# Altium integrated library Microchip dsPIC33F.IntLib: 595 symbols (part 4 of 29)
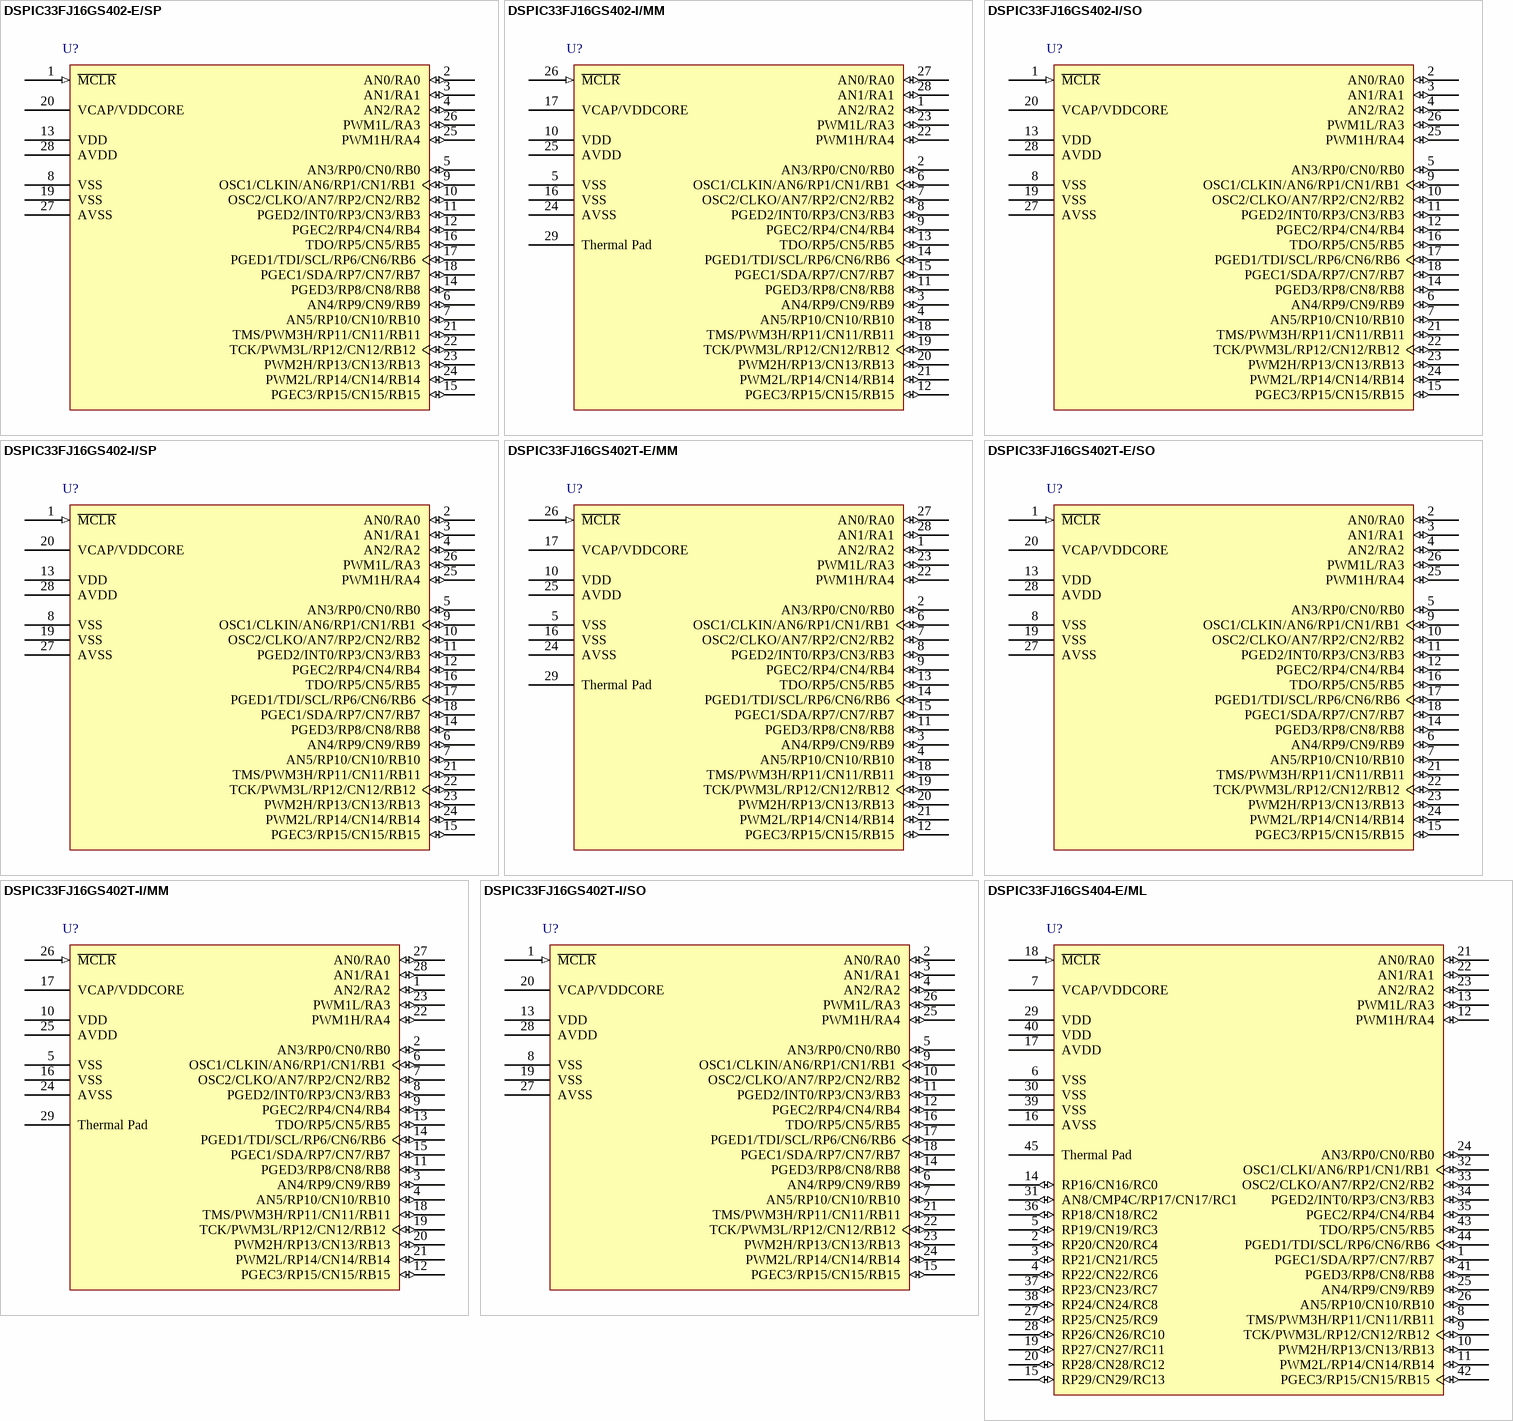
[diagram p121: symbols DSPIC33FJ16GS402-E/SP to DSPIC33FJ16GS404-E/ML]

## DSPIC33FJ16GS402T-I/SO
designator U?
High-Performance 16-bit Digital Signal Controller, 16 KB Flash, 2 KB RAM , 28-Pin SOIC, Industrial Temperature , Tape and Reel; DatasheetVersion: revD, Mar-2009; PackageVersion: revBB, Aug-2009; PackageReference: SOIC-SO28; PackageDescription: 28-Lead Plastic Small Outline (SO) - Wide 7.50mm Body [SOIC]; Code_JEDEC: MS-013; ComponentLink1Description: Manufacturer URL; ComponentLink1URL: http://www.microchip.com/; ComponentLink2Description: Datasheet; ComponentLink2URL: http://ww1.microchip.com/downloads/en/DeviceDoc/70318D.pdf; ComponentLink3Description: Package Specification; ComponentLink3URL: http://www.microchip.com/stellent/groups/techpub_sg/documents/packagingspec/en012702.pdf
footprint SOIC-SO28_N (SOIC, 28-Leads, Body 17.9x7.5mm, Pitch 1.27mm, IPC Medium Density)
footprint SOIC-SO28_L (SOIC, 28-Leads, Body 17.9x7.5mm, Pitch 1.27mm, IPC High Density)
footprint SOIC-SO28_M (SOIC, 28-Leads, Body 17.9x7.5mm, Pitch 1.27mm, IPC Low Density)
pins: 1 ~{MCLR} (in), 2 AN0/RA0 (io), 3 AN1/RA1 (io), 4 AN2/RA2 (io), 5 AN3/RP0/CN0/RB0 (io), 6 AN4/RP9/CN9/RB9 (io), 7 AN5/RP10/CN10/RB10 (io), 8 VSS (power), 9 OSC1/CLKIN/AN6/RP1/CN1/RB1 (io), 10 OSC2/CLKO/AN7/RP2/CN2/RB2 (io), 11 PGED2/INT0/RP3/CN3/RB3 (io), 12 PGEC2/RP4/CN4/RB4 (io), 13 VDD (power), 14 PGED3/RP8/CN8/RB8 (io), 15 PGEC3/RP15/CN15/RB15 (io), 16 TDO/RP5/CN5/RB5 (io), 17 PGED1/TDI/SCL/RP6/CN6/RB6 (io), 18 PGEC1/SDA/RP7/CN7/RB7 (io), 19 VSS (power), 20 VCAP/VDDCORE (power), 21 TMS/PWM3H/RP11/CN11/RB11 (io), 22 TCK/PWM3L/RP12/CN12/RB12 (io), 23 PWM2H/RP13/CN13/RB13 (io), 24 PWM2L/RP14/CN14/RB14 (io), 25 PWM1H/RA4 (io), 26 PWM1L/RA3 (io), 27 AVSS (power), 28 AVDD (power)

## DSPIC33FJ16GS404-E/ML
designator U?
High-Performance 16-bit Digital Signal Controller, 16 KB Flash, 2 KB RAM , 44-Pin QFN, Extended High Temperature; DatasheetVersion: revD, Mar-2009; PackageVersion: revBB, Aug-2009; PackageReference: QFN-ML44; PackageDescription: 44-Lead Plastic Quad Flat, No Lead Package (ML) - 8x8 mm Body [QFN]; Code_JEDEC: MO-220; Code_IPC: QFN65P800X800-44V2; ComponentLink1Description: Manufacturer URL; ComponentLink1URL: http://www.microchip.com/; ComponentLink2Description: Datasheet; ComponentLink2URL: http://ww1.microchip.com/downloads/en/DeviceDoc/70318D.pdf; ComponentLink3Description: Package Specification; ComponentLink3URL: http://www.microchip.com/stellent/groups/techpub_sg/documents/packagingspec/en012702.pdf
footprint QFN-ML44_N (QFN, 44-Leads, Body 8x8mm, Pitch 0.65mm, Thermal Pad 6.8x6.8mm, IPC Medium Density)
footprint QFN-ML44_L (QFN, 44-Leads, Body 8x8mm, Pitch 0.65mm, Thermal Pad 6.8x6.8mm, IPC High Density)
footprint QFN-ML44_M (QFN, 44-Leads, Body 8x8mm, Pitch 0.65mm, Thermal Pad 6.8x6.8mm, IPC Low Density)
pins: 1 PGEC1/SDA/RP7/CN7/RB7 (io), 2 RP20/CN20/RC4 (io), 3 RP21/CN21/RC5 (io), 4 RP22/CN22/RC6 (io), 5 RP19/CN19/RC3 (io), 6 VSS (power), 7 VCAP/VDDCORE (power), 8 TMS/PWM3H/RP11/CN11/RB11 (io), 9 TCK/PWM3L/RP12/CN12/RB12 (io), 10 PWM2H/RP13/CN13/RB13 (io), 11 PWM2L/RP14/CN14/RB14 (io), 12 PWM1H/RA4 (io), 13 PWM1L/RA3 (io), 14 RP16/CN16/RC0 (io), 15 RP29/CN29/RC13 (io), 16 AVSS (power), 17 AVDD (power), 18 ~{MCLR} (in), 19 RP27/CN27/RC11 (io), 20 RP28/CN28/RC12 (io), 21 AN0/RA0 (io), 22 AN1/RA1 (io), 23 AN2/RA2 (io), 24 AN3/RP0/CN0/RB0 (io), 25 AN4/RP9/CN9/RB9 (io), 26 AN5/RP10/CN10/RB10 (io), 27 RP25/CN25/RC9 (io), 28 RP26/CN26/RC10 (io), 29 VDD (power), 30 VSS (power), 31 AN8/CMP4C/RP17/CN17/RC1 (io), 32 OSC1/CLKI/AN6/RP1/CN1/RB1 (io), 33 OSC2/CLKO/AN7/RP2/CN2/RB2 (io), 34 PGED2/INT0/RP3/CN3/RB3 (io), 35 PGEC2/RP4/CN4/RB4 (io), 36 RP18/CN18/RC2 (io), 37 RP23/CN23/RC7 (io), 38 RP24/CN24/RC8 (io), 39 VSS (power), 40 VDD (power), 41 PGED3/RP8/CN8/RB8 (io), 42 PGEC3/RP15/CN15/RB15 (io), 43 TDO/RP5/CN5/RB5 (io), 44 PGED1/TDI/SCL/RP6/CN6/RB6 (io), 45 Thermal Pad

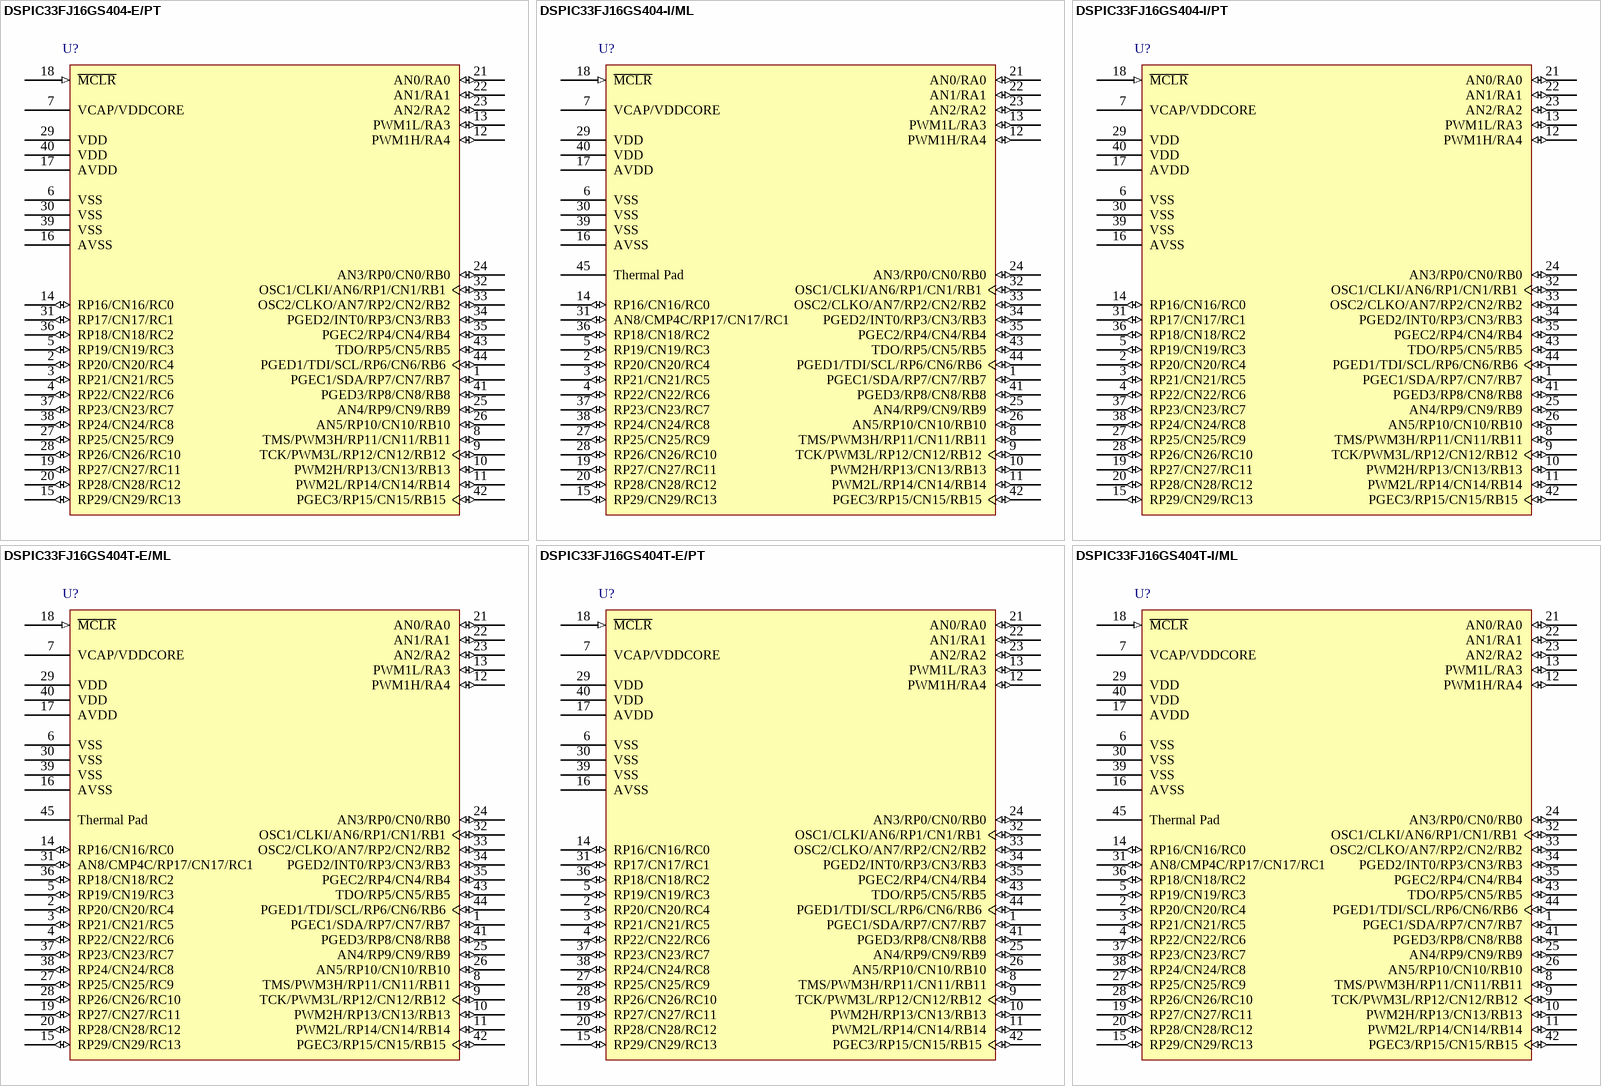
[diagram p9: symbols DSPIC33FJ16GS404-E/PT to DSPIC33FJ16GS404T-I/ML]

## DSPIC33FJ16GS404-E/PT
designator U?
High-Performance 16-bit Digital Signal Controller, 16 KB Flash, 2 KB RAM , 44-Pin TQFP, Extended High Temperature; DatasheetVersion: revD, Mar-2009; PackageVersion: revBB, Aug-2009; PackageReference: TQFP-PT44; PackageDescription: 44-Lead Plastic Thin Quad Flatpack (PT) - 10x10x1mm Body, 2.00mm [TQFP]; Code_JEDEC: MS-026; ComponentLink1Description: Manufacturer URL; ComponentLink1URL: http://www.microchip.com/; ComponentLink2Description: Datasheet; ComponentLink2URL: http://ww1.microchip.com/downloads/en/DeviceDoc/70318D.pdf; ComponentLink3Description: Package Specification; ComponentLink3URL: http://www.microchip.com/stellent/groups/techpub_sg/documents/packagingspec/en012702.pdf
footprint TQFP-PT44_N (Thin QFP, 44-Leads, Body 10x10mm, Pitch 0.8mm, IPC Medium Density)
footprint TQFP-PT44_L (Thin QFP, 44-Leads, Body 10x10mm, Pitch 0.8mm, IPC High Density)
footprint TQFP-PT44_M (Thin QFP, 44-Leads, Body 10x10mm, Pitch 0.8mm, IPC Low Density)
pins: 1 PGEC1/SDA/RP7/CN7/RB7 (io), 2 RP20/CN20/RC4 (io), 3 RP21/CN21/RC5 (io), 4 RP22/CN22/RC6 (io), 5 RP19/CN19/RC3 (io), 6 VSS (power), 7 VCAP/VDDCORE (power), 8 TMS/PWM3H/RP11/CN11/RB11 (io), 9 TCK/PWM3L/RP12/CN12/RB12 (io), 10 PWM2H/RP13/CN13/RB13 (io), 11 PWM2L/RP14/CN14/RB14 (io), 12 PWM1H/RA4 (io), 13 PWM1L/RA3 (io), 14 RP16/CN16/RC0 (io), 15 RP29/CN29/RC13 (io), 16 AVSS (power), 17 AVDD (power), 18 ~{MCLR} (in), 19 RP27/CN27/RC11 (io), 20 RP28/CN28/RC12 (io), 21 AN0/RA0 (io), 22 AN1/RA1 (io), 23 AN2/RA2 (io), 24 AN3/RP0/CN0/RB0 (io), 25 AN4/RP9/CN9/RB9 (io), 26 AN5/RP10/CN10/RB10 (io), 27 RP25/CN25/RC9 (io), 28 RP26/CN26/RC10 (io), 29 VDD (power), 30 VSS (power), 31 RP17/CN17/RC1 (io), 32 OSC1/CLKI/AN6/RP1/CN1/RB1 (io), 33 OSC2/CLKO/AN7/RP2/CN2/RB2 (io), 34 PGED2/INT0/RP3/CN3/RB3 (io), 35 PGEC2/RP4/CN4/RB4 (io), 36 RP18/CN18/RC2 (io), 37 RP23/CN23/RC7 (io), 38 RP24/CN24/RC8 (io), 39 VSS (power), 40 VDD (power), 41 PGED3/RP8/CN8/RB8 (io), 42 PGEC3/RP15/CN15/RB15 (io), 43 TDO/RP5/CN5/RB5 (io), 44 PGED1/TDI/SCL/RP6/CN6/RB6 (io)

## DSPIC33FJ16GS404-I/ML
designator U?
High-Performance 16-bit Digital Signal Controller, 16 KB Flash, 2 KB RAM , 44-Pin QFN, Industrial Temperature; DatasheetVersion: revD, Mar-2009; PackageVersion: revBB, Aug-2009; PackageReference: QFN-ML44; PackageDescription: 44-Lead Plastic Quad Flat, No Lead Package (ML) - 8x8 mm Body [QFN]; Code_JEDEC: MO-220; Code_IPC: QFN65P800X800-44V2; ComponentLink1Description: Manufacturer URL; ComponentLink1URL: http://www.microchip.com/; ComponentLink2Description: Datasheet; ComponentLink2URL: http://ww1.microchip.com/downloads/en/DeviceDoc/70318D.pdf; ComponentLink3Description: Package Specification; ComponentLink3URL: http://www.microchip.com/stellent/groups/techpub_sg/documents/packagingspec/en012702.pdf
footprint QFN-ML44_N (QFN, 44-Leads, Body 8x8mm, Pitch 0.65mm, Thermal Pad 6.8x6.8mm, IPC Medium Density)
footprint QFN-ML44_L (QFN, 44-Leads, Body 8x8mm, Pitch 0.65mm, Thermal Pad 6.8x6.8mm, IPC High Density)
footprint QFN-ML44_M (QFN, 44-Leads, Body 8x8mm, Pitch 0.65mm, Thermal Pad 6.8x6.8mm, IPC Low Density)
pins: 1 PGEC1/SDA/RP7/CN7/RB7 (io), 2 RP20/CN20/RC4 (io), 3 RP21/CN21/RC5 (io), 4 RP22/CN22/RC6 (io), 5 RP19/CN19/RC3 (io), 6 VSS (power), 7 VCAP/VDDCORE (power), 8 TMS/PWM3H/RP11/CN11/RB11 (io), 9 TCK/PWM3L/RP12/CN12/RB12 (io), 10 PWM2H/RP13/CN13/RB13 (io), 11 PWM2L/RP14/CN14/RB14 (io), 12 PWM1H/RA4 (io), 13 PWM1L/RA3 (io), 14 RP16/CN16/RC0 (io), 15 RP29/CN29/RC13 (io), 16 AVSS (power), 17 AVDD (power), 18 ~{MCLR} (in), 19 RP27/CN27/RC11 (io), 20 RP28/CN28/RC12 (io), 21 AN0/RA0 (io), 22 AN1/RA1 (io), 23 AN2/RA2 (io), 24 AN3/RP0/CN0/RB0 (io), 25 AN4/RP9/CN9/RB9 (io), 26 AN5/RP10/CN10/RB10 (io), 27 RP25/CN25/RC9 (io), 28 RP26/CN26/RC10 (io), 29 VDD (power), 30 VSS (power), 31 AN8/CMP4C/RP17/CN17/RC1 (io), 32 OSC1/CLKI/AN6/RP1/CN1/RB1 (io), 33 OSC2/CLKO/AN7/RP2/CN2/RB2 (io), 34 PGED2/INT0/RP3/CN3/RB3 (io), 35 PGEC2/RP4/CN4/RB4 (io), 36 RP18/CN18/RC2 (io), 37 RP23/CN23/RC7 (io), 38 RP24/CN24/RC8 (io), 39 VSS (power), 40 VDD (power), 41 PGED3/RP8/CN8/RB8 (io), 42 PGEC3/RP15/CN15/RB15 (io), 43 TDO/RP5/CN5/RB5 (io), 44 PGED1/TDI/SCL/RP6/CN6/RB6 (io), 45 Thermal Pad

## DSPIC33FJ16GS404-I/PT
designator U?
High-Performance 16-bit Digital Signal Controller, 16 KB Flash, 2 KB RAM , 44-Pin TQFP, Industrial Temperature; DatasheetVersion: revD, Mar-2009; PackageVersion: revBB, Aug-2009; PackageReference: TQFP-PT44; PackageDescription: 44-Lead Plastic Thin Quad Flatpack (PT) - 10x10x1mm Body, 2.00mm [TQFP]; Code_JEDEC: MS-026; ComponentLink1Description: Manufacturer URL; ComponentLink1URL: http://www.microchip.com/; ComponentLink2Description: Datasheet; ComponentLink2URL: http://ww1.microchip.com/downloads/en/DeviceDoc/70318D.pdf; ComponentLink3Description: Package Specification; ComponentLink3URL: http://www.microchip.com/stellent/groups/techpub_sg/documents/packagingspec/en012702.pdf
footprint TQFP-PT44_N (Thin QFP, 44-Leads, Body 10x10mm, Pitch 0.8mm, IPC Medium Density)
footprint TQFP-PT44_L (Thin QFP, 44-Leads, Body 10x10mm, Pitch 0.8mm, IPC High Density)
footprint TQFP-PT44_M (Thin QFP, 44-Leads, Body 10x10mm, Pitch 0.8mm, IPC Low Density)
pins: 1 PGEC1/SDA/RP7/CN7/RB7 (io), 2 RP20/CN20/RC4 (io), 3 RP21/CN21/RC5 (io), 4 RP22/CN22/RC6 (io), 5 RP19/CN19/RC3 (io), 6 VSS (power), 7 VCAP/VDDCORE (power), 8 TMS/PWM3H/RP11/CN11/RB11 (io), 9 TCK/PWM3L/RP12/CN12/RB12 (io), 10 PWM2H/RP13/CN13/RB13 (io), 11 PWM2L/RP14/CN14/RB14 (io), 12 PWM1H/RA4 (io), 13 PWM1L/RA3 (io), 14 RP16/CN16/RC0 (io), 15 RP29/CN29/RC13 (io), 16 AVSS (power), 17 AVDD (power), 18 ~{MCLR} (in), 19 RP27/CN27/RC11 (io), 20 RP28/CN28/RC12 (io), 21 AN0/RA0 (io), 22 AN1/RA1 (io), 23 AN2/RA2 (io), 24 AN3/RP0/CN0/RB0 (io), 25 AN4/RP9/CN9/RB9 (io), 26 AN5/RP10/CN10/RB10 (io), 27 RP25/CN25/RC9 (io), 28 RP26/CN26/RC10 (io), 29 VDD (power), 30 VSS (power), 31 RP17/CN17/RC1 (io), 32 OSC1/CLKI/AN6/RP1/CN1/RB1 (io), 33 OSC2/CLKO/AN7/RP2/CN2/RB2 (io), 34 PGED2/INT0/RP3/CN3/RB3 (io), 35 PGEC2/RP4/CN4/RB4 (io), 36 RP18/CN18/RC2 (io), 37 RP23/CN23/RC7 (io), 38 RP24/CN24/RC8 (io), 39 VSS (power), 40 VDD (power), 41 PGED3/RP8/CN8/RB8 (io), 42 PGEC3/RP15/CN15/RB15 (io), 43 TDO/RP5/CN5/RB5 (io), 44 PGED1/TDI/SCL/RP6/CN6/RB6 (io)

## DSPIC33FJ16GS404T-E/ML
designator U?
High-Performance 16-bit Digital Signal Controller, 16 KB Flash, 2 KB RAM , 44-Pin QFN, Extended High Temperature , Tape and Reel; DatasheetVersion: revD, Mar-2009; PackageVersion: revBB, Aug-2009; PackageReference: QFN-ML44; PackageDescription: 44-Lead Plastic Quad Flat, No Lead Package (ML) - 8x8 mm Body [QFN]; Code_JEDEC: MO-220; Code_IPC: QFN65P800X800-44V2; ComponentLink1Description: Manufacturer URL; ComponentLink1URL: http://www.microchip.com/; ComponentLink2Description: Datasheet; ComponentLink2URL: http://ww1.microchip.com/downloads/en/DeviceDoc/70318D.pdf; ComponentLink3Description: Package Specification; ComponentLink3URL: http://www.microchip.com/stellent/groups/techpub_sg/documents/packagingspec/en012702.pdf
footprint QFN-ML44_N (QFN, 44-Leads, Body 8x8mm, Pitch 0.65mm, Thermal Pad 6.8x6.8mm, IPC Medium Density)
footprint QFN-ML44_L (QFN, 44-Leads, Body 8x8mm, Pitch 0.65mm, Thermal Pad 6.8x6.8mm, IPC High Density)
footprint QFN-ML44_M (QFN, 44-Leads, Body 8x8mm, Pitch 0.65mm, Thermal Pad 6.8x6.8mm, IPC Low Density)
pins: 1 PGEC1/SDA/RP7/CN7/RB7 (io), 2 RP20/CN20/RC4 (io), 3 RP21/CN21/RC5 (io), 4 RP22/CN22/RC6 (io), 5 RP19/CN19/RC3 (io), 6 VSS (power), 7 VCAP/VDDCORE (power), 8 TMS/PWM3H/RP11/CN11/RB11 (io), 9 TCK/PWM3L/RP12/CN12/RB12 (io), 10 PWM2H/RP13/CN13/RB13 (io), 11 PWM2L/RP14/CN14/RB14 (io), 12 PWM1H/RA4 (io), 13 PWM1L/RA3 (io), 14 RP16/CN16/RC0 (io), 15 RP29/CN29/RC13 (io), 16 AVSS (power), 17 AVDD (power), 18 ~{MCLR} (in), 19 RP27/CN27/RC11 (io), 20 RP28/CN28/RC12 (io), 21 AN0/RA0 (io), 22 AN1/RA1 (io), 23 AN2/RA2 (io), 24 AN3/RP0/CN0/RB0 (io), 25 AN4/RP9/CN9/RB9 (io), 26 AN5/RP10/CN10/RB10 (io), 27 RP25/CN25/RC9 (io), 28 RP26/CN26/RC10 (io), 29 VDD (power), 30 VSS (power), 31 AN8/CMP4C/RP17/CN17/RC1 (io), 32 OSC1/CLKI/AN6/RP1/CN1/RB1 (io), 33 OSC2/CLKO/AN7/RP2/CN2/RB2 (io), 34 PGED2/INT0/RP3/CN3/RB3 (io), 35 PGEC2/RP4/CN4/RB4 (io), 36 RP18/CN18/RC2 (io), 37 RP23/CN23/RC7 (io), 38 RP24/CN24/RC8 (io), 39 VSS (power), 40 VDD (power), 41 PGED3/RP8/CN8/RB8 (io), 42 PGEC3/RP15/CN15/RB15 (io), 43 TDO/RP5/CN5/RB5 (io), 44 PGED1/TDI/SCL/RP6/CN6/RB6 (io), 45 Thermal Pad

## DSPIC33FJ16GS404T-E/PT
designator U?
High-Performance 16-bit Digital Signal Controller, 16 KB Flash, 2 KB RAM , 44-Pin TQFP, Extended High Temperature , Tape and Reel; DatasheetVersion: revD, Mar-2009; PackageVersion: revBB, Aug-2009; PackageReference: TQFP-PT44; PackageDescription: 44-Lead Plastic Thin Quad Flatpack (PT) - 10x10x1mm Body, 2.00mm [TQFP]; Code_JEDEC: MS-026; ComponentLink1Description: Manufacturer URL; ComponentLink1URL: http://www.microchip.com/; ComponentLink2Description: Datasheet; ComponentLink2URL: http://ww1.microchip.com/downloads/en/DeviceDoc/70318D.pdf; ComponentLink3Description: Package Specification; ComponentLink3URL: http://www.microchip.com/stellent/groups/techpub_sg/documents/packagingspec/en012702.pdf
footprint TQFP-PT44_N (Thin QFP, 44-Leads, Body 10x10mm, Pitch 0.8mm, IPC Medium Density)
footprint TQFP-PT44_L (Thin QFP, 44-Leads, Body 10x10mm, Pitch 0.8mm, IPC High Density)
footprint TQFP-PT44_M (Thin QFP, 44-Leads, Body 10x10mm, Pitch 0.8mm, IPC Low Density)
pins: 1 PGEC1/SDA/RP7/CN7/RB7 (io), 2 RP20/CN20/RC4 (io), 3 RP21/CN21/RC5 (io), 4 RP22/CN22/RC6 (io), 5 RP19/CN19/RC3 (io), 6 VSS (power), 7 VCAP/VDDCORE (power), 8 TMS/PWM3H/RP11/CN11/RB11 (io), 9 TCK/PWM3L/RP12/CN12/RB12 (io), 10 PWM2H/RP13/CN13/RB13 (io), 11 PWM2L/RP14/CN14/RB14 (io), 12 PWM1H/RA4 (io), 13 PWM1L/RA3 (io), 14 RP16/CN16/RC0 (io), 15 RP29/CN29/RC13 (io), 16 AVSS (power), 17 AVDD (power), 18 ~{MCLR} (in), 19 RP27/CN27/RC11 (io), 20 RP28/CN28/RC12 (io), 21 AN0/RA0 (io), 22 AN1/RA1 (io), 23 AN2/RA2 (io), 24 AN3/RP0/CN0/RB0 (io), 25 AN4/RP9/CN9/RB9 (io), 26 AN5/RP10/CN10/RB10 (io), 27 RP25/CN25/RC9 (io), 28 RP26/CN26/RC10 (io), 29 VDD (power), 30 VSS (power), 31 RP17/CN17/RC1 (io), 32 OSC1/CLKI/AN6/RP1/CN1/RB1 (io), 33 OSC2/CLKO/AN7/RP2/CN2/RB2 (io), 34 PGED2/INT0/RP3/CN3/RB3 (io), 35 PGEC2/RP4/CN4/RB4 (io), 36 RP18/CN18/RC2 (io), 37 RP23/CN23/RC7 (io), 38 RP24/CN24/RC8 (io), 39 VSS (power), 40 VDD (power), 41 PGED3/RP8/CN8/RB8 (io), 42 PGEC3/RP15/CN15/RB15 (io), 43 TDO/RP5/CN5/RB5 (io), 44 PGED1/TDI/SCL/RP6/CN6/RB6 (io)

## DSPIC33FJ16GS404T-I/ML
designator U?
High-Performance 16-bit Digital Signal Controller, 16 KB Flash, 2 KB RAM , 44-Pin QFN, Industrial Temperature , Tape and Reel; DatasheetVersion: revD, Mar-2009; PackageVersion: revBB, Aug-2009; PackageReference: QFN-ML44; PackageDescription: 44-Lead Plastic Quad Flat, No Lead Package (ML) - 8x8 mm Body [QFN]; Code_JEDEC: MO-220; Code_IPC: QFN65P800X800-44V2; ComponentLink1Description: Manufacturer URL; ComponentLink1URL: http://www.microchip.com/; ComponentLink2Description: Datasheet; ComponentLink2URL: http://ww1.microchip.com/downloads/en/DeviceDoc/70318D.pdf; ComponentLink3Description: Package Specification; ComponentLink3URL: http://www.microchip.com/stellent/groups/techpub_sg/documents/packagingspec/en012702.pdf
footprint QFN-ML44_N (QFN, 44-Leads, Body 8x8mm, Pitch 0.65mm, Thermal Pad 6.8x6.8mm, IPC Medium Density)
footprint QFN-ML44_L (QFN, 44-Leads, Body 8x8mm, Pitch 0.65mm, Thermal Pad 6.8x6.8mm, IPC High Density)
footprint QFN-ML44_M (QFN, 44-Leads, Body 8x8mm, Pitch 0.65mm, Thermal Pad 6.8x6.8mm, IPC Low Density)
pins: 1 PGEC1/SDA/RP7/CN7/RB7 (io), 2 RP20/CN20/RC4 (io), 3 RP21/CN21/RC5 (io), 4 RP22/CN22/RC6 (io), 5 RP19/CN19/RC3 (io), 6 VSS (power), 7 VCAP/VDDCORE (power), 8 TMS/PWM3H/RP11/CN11/RB11 (io), 9 TCK/PWM3L/RP12/CN12/RB12 (io), 10 PWM2H/RP13/CN13/RB13 (io), 11 PWM2L/RP14/CN14/RB14 (io), 12 PWM1H/RA4 (io), 13 PWM1L/RA3 (io), 14 RP16/CN16/RC0 (io), 15 RP29/CN29/RC13 (io), 16 AVSS (power), 17 AVDD (power), 18 ~{MCLR} (in), 19 RP27/CN27/RC11 (io), 20 RP28/CN28/RC12 (io), 21 AN0/RA0 (io), 22 AN1/RA1 (io), 23 AN2/RA2 (io), 24 AN3/RP0/CN0/RB0 (io), 25 AN4/RP9/CN9/RB9 (io), 26 AN5/RP10/CN10/RB10 (io), 27 RP25/CN25/RC9 (io), 28 RP26/CN26/RC10 (io), 29 VDD (power), 30 VSS (power), 31 AN8/CMP4C/RP17/CN17/RC1 (io), 32 OSC1/CLKI/AN6/RP1/CN1/RB1 (io), 33 OSC2/CLKO/AN7/RP2/CN2/RB2 (io), 34 PGED2/INT0/RP3/CN3/RB3 (io), 35 PGEC2/RP4/CN4/RB4 (io), 36 RP18/CN18/RC2 (io), 37 RP23/CN23/RC7 (io), 38 RP24/CN24/RC8 (io), 39 VSS (power), 40 VDD (power), 41 PGED3/RP8/CN8/RB8 (io), 42 PGEC3/RP15/CN15/RB15 (io), 43 TDO/RP5/CN5/RB5 (io), 44 PGED1/TDI/SCL/RP6/CN6/RB6 (io), 45 Thermal Pad

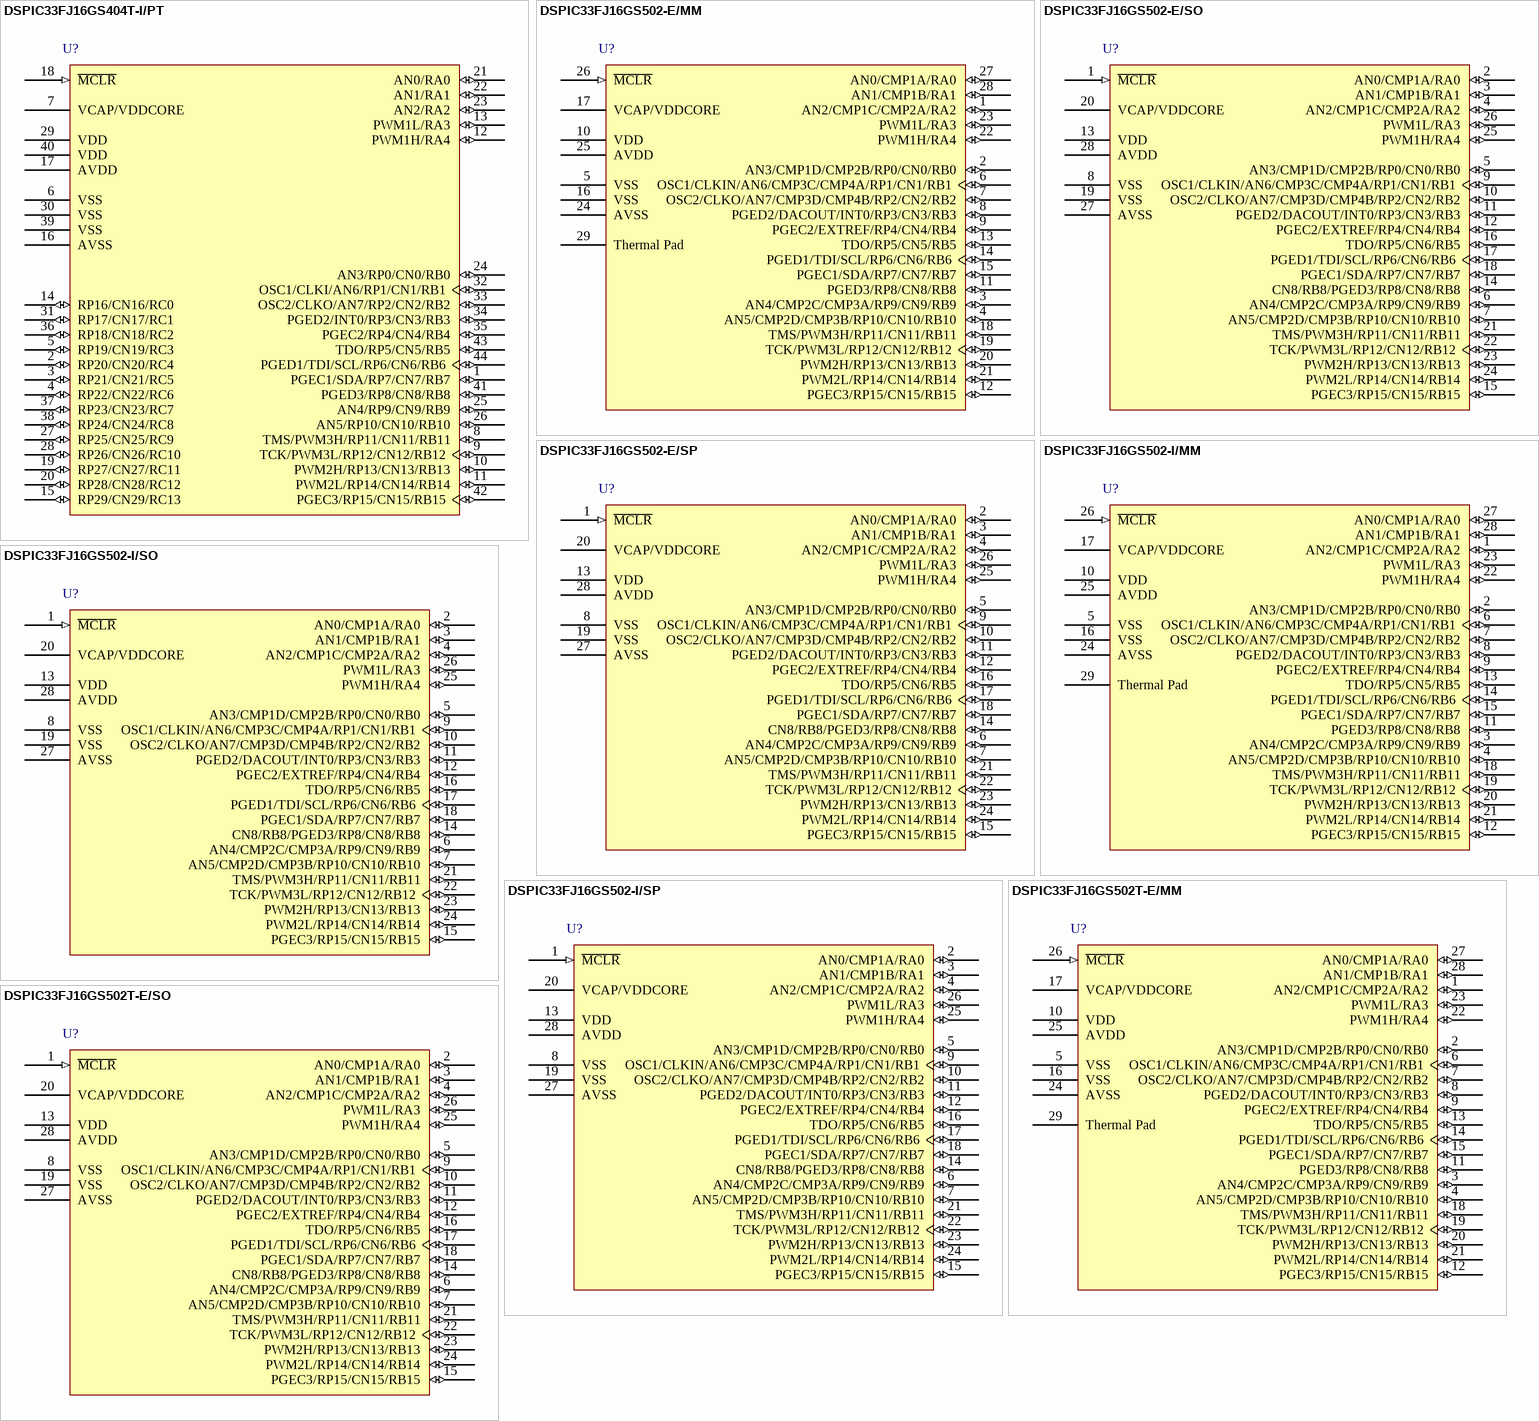
[diagram p10: symbols DSPIC33FJ16GS404T-I/PT to DSPIC33FJ16GS502T-E/SO]

## DSPIC33FJ16GS404T-I/PT
designator U?
High-Performance 16-bit Digital Signal Controller, 16 KB Flash, 2 KB RAM , 44-Pin TQFP, Industrial Temperature , Tape and Reel; DatasheetVersion: revD, Mar-2009; PackageVersion: revBB, Aug-2009; PackageReference: TQFP-PT44; PackageDescription: 44-Lead Plastic Thin Quad Flatpack (PT) - 10x10x1mm Body, 2.00mm [TQFP]; Code_JEDEC: MS-026; ComponentLink1Description: Manufacturer URL; ComponentLink1URL: http://www.microchip.com/; ComponentLink2Description: Datasheet; ComponentLink2URL: http://ww1.microchip.com/downloads/en/DeviceDoc/70318D.pdf; ComponentLink3Description: Package Specification; ComponentLink3URL: http://www.microchip.com/stellent/groups/techpub_sg/documents/packagingspec/en012702.pdf
footprint TQFP-PT44_N (Thin QFP, 44-Leads, Body 10x10mm, Pitch 0.8mm, IPC Medium Density)
footprint TQFP-PT44_L (Thin QFP, 44-Leads, Body 10x10mm, Pitch 0.8mm, IPC High Density)
footprint TQFP-PT44_M (Thin QFP, 44-Leads, Body 10x10mm, Pitch 0.8mm, IPC Low Density)
pins: 1 PGEC1/SDA/RP7/CN7/RB7 (io), 2 RP20/CN20/RC4 (io), 3 RP21/CN21/RC5 (io), 4 RP22/CN22/RC6 (io), 5 RP19/CN19/RC3 (io), 6 VSS (power), 7 VCAP/VDDCORE (power), 8 TMS/PWM3H/RP11/CN11/RB11 (io), 9 TCK/PWM3L/RP12/CN12/RB12 (io), 10 PWM2H/RP13/CN13/RB13 (io), 11 PWM2L/RP14/CN14/RB14 (io), 12 PWM1H/RA4 (io), 13 PWM1L/RA3 (io), 14 RP16/CN16/RC0 (io), 15 RP29/CN29/RC13 (io), 16 AVSS (power), 17 AVDD (power), 18 ~{MCLR} (in), 19 RP27/CN27/RC11 (io), 20 RP28/CN28/RC12 (io), 21 AN0/RA0 (io), 22 AN1/RA1 (io), 23 AN2/RA2 (io), 24 AN3/RP0/CN0/RB0 (io), 25 AN4/RP9/CN9/RB9 (io), 26 AN5/RP10/CN10/RB10 (io), 27 RP25/CN25/RC9 (io), 28 RP26/CN26/RC10 (io), 29 VDD (power), 30 VSS (power), 31 RP17/CN17/RC1 (io), 32 OSC1/CLKI/AN6/RP1/CN1/RB1 (io), 33 OSC2/CLKO/AN7/RP2/CN2/RB2 (io), 34 PGED2/INT0/RP3/CN3/RB3 (io), 35 PGEC2/RP4/CN4/RB4 (io), 36 RP18/CN18/RC2 (io), 37 RP23/CN23/RC7 (io), 38 RP24/CN24/RC8 (io), 39 VSS (power), 40 VDD (power), 41 PGED3/RP8/CN8/RB8 (io), 42 PGEC3/RP15/CN15/RB15 (io), 43 TDO/RP5/CN5/RB5 (io), 44 PGED1/TDI/SCL/RP6/CN6/RB6 (io)

## DSPIC33FJ16GS502-E/MM
designator U?
High-Performance 16-bit Digital Signal Controller, 16 KB Flash, 2 KB RAM , 28-Pin QFN, Extended High Temperature; DatasheetVersion: revD, Mar-2009; PackageVersion: revBB, Aug-2009; PackageReference: QFNS-MM28; PackageDescription: 28-Lead Plastic Quad Flat, No Lead Package (MM) - 6x6x0.9 mm Body [QFN-S] with 0.40 mm Contact Length; ComponentLink1Description: Manufacturer URL; ComponentLink1URL: http://www.microchip.com/; ComponentLink2Description: Datasheet; ComponentLink2URL: http://ww1.microchip.com/downloads/en/DeviceDoc/70318D.pdf; ComponentLink3Description: Package Specification; ComponentLink3URL: http://www.microchip.com/stellent/groups/techpub_sg/documents/packagingspec/en012702.pdf
footprint QFNS-MM28_N (QFN, 28-Leads, Body 6x6mm, Pitch 0.65mm, Thermal Pad 4.7x4.7mm, IPC Medium Density)
footprint QFNS-MM28_L (QFN, 28-Leads, Body 6x6mm, Pitch 0.65mm, Thermal Pad 4.7x4.7mm, IPC High Density)
footprint QFNS-MM28_M (QFN, 28-Leads, Body 6x6mm, Pitch 0.65mm, Thermal Pad 4.7x4.7mm, IPC Low Density)
pins: 1 AN2/CMP1C/CMP2A/RA2 (io), 2 AN3/CMP1D/CMP2B/RP0/CN0/RB0 (io), 3 AN4/CMP2C/CMP3A/RP9/CN9/RB9 (io), 4 AN5/CMP2D/CMP3B/RP10/CN10/RB10 (io), 5 VSS (power), 6 OSC1/CLKIN/AN6/CMP3C/CMP4A/RP1/CN1/RB1 (io), 7 OSC2/CLKO/AN7/CMP3D/CMP4B/RP2/CN2/RB2 (io), 8 PGED2/DACOUT/INT0/RP3/CN3/RB3 (io), 9 PGEC2/EXTREF/RP4/CN4/RB4 (io), 10 VDD (power), 11 PGED3/RP8/CN8/RB8 (io), 12 PGEC3/RP15/CN15/RB15 (io), 13 TDO/RP5/CN5/RB5 (io), 14 PGED1/TDI/SCL/RP6/CN6/RB6 (io), 15 PGEC1/SDA/RP7/CN7/RB7 (io), 16 VSS (power), 17 VCAP/VDDCORE (power), 18 TMS/PWM3H/RP11/CN11/RB11 (io), 19 TCK/PWM3L/RP12/CN12/RB12 (io), 20 PWM2H/RP13/CN13/RB13 (io), 21 PWM2L/RP14/CN14/RB14 (io), 22 PWM1H/RA4 (io), 23 PWM1L/RA3 (io), 24 AVSS (power), 25 AVDD (power), 26 ~{MCLR} (in), 27 AN0/CMP1A/RA0 (io), 28 AN1/CMP1B/RA1 (io), 29 Thermal Pad

## DSPIC33FJ16GS502-E/SO
designator U?
High-Performance 16-bit Digital Signal Controller, 16 KB Flash, 2 KB RAM , 28-Pin SOIC, Extended High Temperature; DatasheetVersion: revD, Mar-2009; PackageVersion: revBB, Aug-2009; PackageReference: SOIC-SO28; PackageDescription: 28-Lead Plastic Small Outline (SO) - Wide 7.50mm Body [SOIC]; Code_JEDEC: MS-013; ComponentLink1Description: Manufacturer URL; ComponentLink1URL: http://www.microchip.com/; ComponentLink2Description: Datasheet; ComponentLink2URL: http://ww1.microchip.com/downloads/en/DeviceDoc/70318D.pdf; ComponentLink3Description: Package Specification; ComponentLink3URL: http://www.microchip.com/stellent/groups/techpub_sg/documents/packagingspec/en012702.pdf
footprint SOIC-SO28_N (SOIC, 28-Leads, Body 17.9x7.5mm, Pitch 1.27mm, IPC Medium Density)
footprint SOIC-SO28_L (SOIC, 28-Leads, Body 17.9x7.5mm, Pitch 1.27mm, IPC High Density)
footprint SOIC-SO28_M (SOIC, 28-Leads, Body 17.9x7.5mm, Pitch 1.27mm, IPC Low Density)
pins: 1 ~{MCLR} (in), 2 AN0/CMP1A/RA0 (io), 3 AN1/CMP1B/RA1 (io), 4 AN2/CMP1C/CMP2A/RA2 (io), 5 AN3/CMP1D/CMP2B/RP0/CN0/RB0 (io), 6 AN4/CMP2C/CMP3A/RP9/CN9/RB9 (io), 7 AN5/CMP2D/CMP3B/RP10/CN10/RB10 (io), 8 VSS (power), 9 OSC1/CLKIN/AN6/CMP3C/CMP4A/RP1/CN1/RB1 (io), 10 OSC2/CLKO/AN7/CMP3D/CMP4B/RP2/CN2/RB2 (io), 11 PGED2/DACOUT/INT0/RP3/CN3/RB3 (io), 12 PGEC2/EXTREF/RP4/CN4/RB4 (io), 13 VDD (power), 14 CN8/RB8/PGED3/RP8/CN8/RB8 (io), 15 PGEC3/RP15/CN15/RB15 (io), 16 TDO/RP5/CN6/RB5 (io), 17 PGED1/TDI/SCL/RP6/CN6/RB6 (io), 18 PGEC1/SDA/RP7/CN7/RB7 (io), 19 VSS (power), 20 VCAP/VDDCORE (power), 21 TMS/PWM3H/RP11/CN11/RB11 (io), 22 TCK/PWM3L/RP12/CN12/RB12 (io), 23 PWM2H/RP13/CN13/RB13 (io), 24 PWM2L/RP14/CN14/RB14 (io), 25 PWM1H/RA4 (io), 26 PWM1L/RA3 (io), 27 AVSS (power), 28 AVDD (power)

## DSPIC33FJ16GS502-E/SP
designator U?
High-Performance 16-bit Digital Signal Controller, 16 KB Flash, 2 KB RAM , 28-Pin SPDIP, Extended High Temperature; DatasheetVersion: revD, Mar-2009; PackageVersion: revBB, Aug-2009; PackageReference: SPDIP300-SP28; PackageDescription: 28-Lead Skinny Plastic Dual In-Line (SP) - 300 mil Body [SPDIP]; ComponentLink1Description: Manufacturer URL; ComponentLink1URL: http://www.microchip.com/; ComponentLink2Description: Datasheet; ComponentLink2URL: http://ww1.microchip.com/downloads/en/DeviceDoc/70318D.pdf; ComponentLink3Description: Package Specification; ComponentLink3URL: http://www.microchip.com/stellent/groups/techpub_sg/documents/packagingspec/en012702.pdf
footprint SPDIP300-SP28 (DIP, 28-Leads, Row Spacing 7.62mm, Pitch 2.54mm, Body 34.9x6.8mm)
pins: 1 ~{MCLR} (in), 2 AN0/CMP1A/RA0 (io), 3 AN1/CMP1B/RA1 (io), 4 AN2/CMP1C/CMP2A/RA2 (io), 5 AN3/CMP1D/CMP2B/RP0/CN0/RB0 (io), 6 AN4/CMP2C/CMP3A/RP9/CN9/RB9 (io), 7 AN5/CMP2D/CMP3B/RP10/CN10/RB10 (io), 8 VSS (power), 9 OSC1/CLKIN/AN6/CMP3C/CMP4A/RP1/CN1/RB1 (io), 10 OSC2/CLKO/AN7/CMP3D/CMP4B/RP2/CN2/RB2 (io), 11 PGED2/DACOUT/INT0/RP3/CN3/RB3 (io), 12 PGEC2/EXTREF/RP4/CN4/RB4 (io), 13 VDD (power), 14 CN8/RB8/PGED3/RP8/CN8/RB8 (io), 15 PGEC3/RP15/CN15/RB15 (io), 16 TDO/RP5/CN6/RB5 (io), 17 PGED1/TDI/SCL/RP6/CN6/RB6 (io), 18 PGEC1/SDA/RP7/CN7/RB7 (io), 19 VSS (power), 20 VCAP/VDDCORE (power), 21 TMS/PWM3H/RP11/CN11/RB11 (io), 22 TCK/PWM3L/RP12/CN12/RB12 (io), 23 PWM2H/RP13/CN13/RB13 (io), 24 PWM2L/RP14/CN14/RB14 (io), 25 PWM1H/RA4 (io), 26 PWM1L/RA3 (io), 27 AVSS (power), 28 AVDD (power)

## DSPIC33FJ16GS502-I/MM
designator U?
High-Performance 16-bit Digital Signal Controller, 16 KB Flash, 2 KB RAM , 28-Pin QFN, Industrial Temperature; DatasheetVersion: revD, Mar-2009; PackageVersion: revBB, Aug-2009; PackageReference: QFNS-MM28; PackageDescription: 28-Lead Plastic Quad Flat, No Lead Package (MM) - 6x6x0.9 mm Body [QFN-S] with 0.40 mm Contact Length; ComponentLink1Description: Manufacturer URL; ComponentLink1URL: http://www.microchip.com/; ComponentLink2Description: Datasheet; ComponentLink2URL: http://ww1.microchip.com/downloads/en/DeviceDoc/70318D.pdf; ComponentLink3Description: Package Specification; ComponentLink3URL: http://www.microchip.com/stellent/groups/techpub_sg/documents/packagingspec/en012702.pdf
footprint QFNS-MM28_N (QFN, 28-Leads, Body 6x6mm, Pitch 0.65mm, Thermal Pad 4.7x4.7mm, IPC Medium Density)
footprint QFNS-MM28_L (QFN, 28-Leads, Body 6x6mm, Pitch 0.65mm, Thermal Pad 4.7x4.7mm, IPC High Density)
footprint QFNS-MM28_M (QFN, 28-Leads, Body 6x6mm, Pitch 0.65mm, Thermal Pad 4.7x4.7mm, IPC Low Density)
pins: 1 AN2/CMP1C/CMP2A/RA2 (io), 2 AN3/CMP1D/CMP2B/RP0/CN0/RB0 (io), 3 AN4/CMP2C/CMP3A/RP9/CN9/RB9 (io), 4 AN5/CMP2D/CMP3B/RP10/CN10/RB10 (io), 5 VSS (power), 6 OSC1/CLKIN/AN6/CMP3C/CMP4A/RP1/CN1/RB1 (io), 7 OSC2/CLKO/AN7/CMP3D/CMP4B/RP2/CN2/RB2 (io), 8 PGED2/DACOUT/INT0/RP3/CN3/RB3 (io), 9 PGEC2/EXTREF/RP4/CN4/RB4 (io), 10 VDD (power), 11 PGED3/RP8/CN8/RB8 (io), 12 PGEC3/RP15/CN15/RB15 (io), 13 TDO/RP5/CN5/RB5 (io), 14 PGED1/TDI/SCL/RP6/CN6/RB6 (io), 15 PGEC1/SDA/RP7/CN7/RB7 (io), 16 VSS (power), 17 VCAP/VDDCORE (power), 18 TMS/PWM3H/RP11/CN11/RB11 (io), 19 TCK/PWM3L/RP12/CN12/RB12 (io), 20 PWM2H/RP13/CN13/RB13 (io), 21 PWM2L/RP14/CN14/RB14 (io), 22 PWM1H/RA4 (io), 23 PWM1L/RA3 (io), 24 AVSS (power), 25 AVDD (power), 26 ~{MCLR} (in), 27 AN0/CMP1A/RA0 (io), 28 AN1/CMP1B/RA1 (io), 29 Thermal Pad

## DSPIC33FJ16GS502-I/SO
designator U?
High-Performance 16-bit Digital Signal Controller, 16 KB Flash, 2 KB RAM , 28-Pin SOIC, Industrial Temperature; DatasheetVersion: revD, Mar-2009; PackageVersion: revBB, Aug-2009; PackageReference: SOIC-SO28; PackageDescription: 28-Lead Plastic Small Outline (SO) - Wide 7.50mm Body [SOIC]; Code_JEDEC: MS-013; ComponentLink1Description: Manufacturer URL; ComponentLink1URL: http://www.microchip.com/; ComponentLink2Description: Datasheet; ComponentLink2URL: http://ww1.microchip.com/downloads/en/DeviceDoc/70318D.pdf; ComponentLink3Description: Package Specification; ComponentLink3URL: http://www.microchip.com/stellent/groups/techpub_sg/documents/packagingspec/en012702.pdf
footprint SOIC-SO28_N (SOIC, 28-Leads, Body 17.9x7.5mm, Pitch 1.27mm, IPC Medium Density)
footprint SOIC-SO28_L (SOIC, 28-Leads, Body 17.9x7.5mm, Pitch 1.27mm, IPC High Density)
footprint SOIC-SO28_M (SOIC, 28-Leads, Body 17.9x7.5mm, Pitch 1.27mm, IPC Low Density)
pins: 1 ~{MCLR} (in), 2 AN0/CMP1A/RA0 (io), 3 AN1/CMP1B/RA1 (io), 4 AN2/CMP1C/CMP2A/RA2 (io), 5 AN3/CMP1D/CMP2B/RP0/CN0/RB0 (io), 6 AN4/CMP2C/CMP3A/RP9/CN9/RB9 (io), 7 AN5/CMP2D/CMP3B/RP10/CN10/RB10 (io), 8 VSS (power), 9 OSC1/CLKIN/AN6/CMP3C/CMP4A/RP1/CN1/RB1 (io), 10 OSC2/CLKO/AN7/CMP3D/CMP4B/RP2/CN2/RB2 (io), 11 PGED2/DACOUT/INT0/RP3/CN3/RB3 (io), 12 PGEC2/EXTREF/RP4/CN4/RB4 (io), 13 VDD (power), 14 CN8/RB8/PGED3/RP8/CN8/RB8 (io), 15 PGEC3/RP15/CN15/RB15 (io), 16 TDO/RP5/CN6/RB5 (io), 17 PGED1/TDI/SCL/RP6/CN6/RB6 (io), 18 PGEC1/SDA/RP7/CN7/RB7 (io), 19 VSS (power), 20 VCAP/VDDCORE (power), 21 TMS/PWM3H/RP11/CN11/RB11 (io), 22 TCK/PWM3L/RP12/CN12/RB12 (io), 23 PWM2H/RP13/CN13/RB13 (io), 24 PWM2L/RP14/CN14/RB14 (io), 25 PWM1H/RA4 (io), 26 PWM1L/RA3 (io), 27 AVSS (power), 28 AVDD (power)

## DSPIC33FJ16GS502-I/SP
designator U?
High-Performance 16-bit Digital Signal Controller, 16 KB Flash, 2 KB RAM , 28-Pin SPDIP, Industrial Temperature; DatasheetVersion: revD, Mar-2009; PackageVersion: revBB, Aug-2009; PackageReference: SPDIP300-SP28; PackageDescription: 28-Lead Skinny Plastic Dual In-Line (SP) - 300 mil Body [SPDIP]; ComponentLink1Description: Manufacturer URL; ComponentLink1URL: http://www.microchip.com/; ComponentLink2Description: Datasheet; ComponentLink2URL: http://ww1.microchip.com/downloads/en/DeviceDoc/70318D.pdf; ComponentLink3Description: Package Specification; ComponentLink3URL: http://www.microchip.com/stellent/groups/techpub_sg/documents/packagingspec/en012702.pdf
footprint SPDIP300-SP28 (DIP, 28-Leads, Row Spacing 7.62mm, Pitch 2.54mm, Body 34.9x6.8mm)
pins: 1 ~{MCLR} (in), 2 AN0/CMP1A/RA0 (io), 3 AN1/CMP1B/RA1 (io), 4 AN2/CMP1C/CMP2A/RA2 (io), 5 AN3/CMP1D/CMP2B/RP0/CN0/RB0 (io), 6 AN4/CMP2C/CMP3A/RP9/CN9/RB9 (io), 7 AN5/CMP2D/CMP3B/RP10/CN10/RB10 (io), 8 VSS (power), 9 OSC1/CLKIN/AN6/CMP3C/CMP4A/RP1/CN1/RB1 (io), 10 OSC2/CLKO/AN7/CMP3D/CMP4B/RP2/CN2/RB2 (io), 11 PGED2/DACOUT/INT0/RP3/CN3/RB3 (io), 12 PGEC2/EXTREF/RP4/CN4/RB4 (io), 13 VDD (power), 14 CN8/RB8/PGED3/RP8/CN8/RB8 (io), 15 PGEC3/RP15/CN15/RB15 (io), 16 TDO/RP5/CN6/RB5 (io), 17 PGED1/TDI/SCL/RP6/CN6/RB6 (io), 18 PGEC1/SDA/RP7/CN7/RB7 (io), 19 VSS (power), 20 VCAP/VDDCORE (power), 21 TMS/PWM3H/RP11/CN11/RB11 (io), 22 TCK/PWM3L/RP12/CN12/RB12 (io), 23 PWM2H/RP13/CN13/RB13 (io), 24 PWM2L/RP14/CN14/RB14 (io), 25 PWM1H/RA4 (io), 26 PWM1L/RA3 (io), 27 AVSS (power), 28 AVDD (power)

## DSPIC33FJ16GS502T-E/MM
designator U?
High-Performance 16-bit Digital Signal Controller, 16 KB Flash, 2 KB RAM , 28-Pin QFN, Extended High Temperature , Tape and Reel; DatasheetVersion: revD, Mar-2009; PackageVersion: revBB, Aug-2009; PackageReference: QFNS-MM28; PackageDescription: 28-Lead Plastic Quad Flat, No Lead Package (MM) - 6x6x0.9 mm Body [QFN-S] with 0.40 mm Contact Length; ComponentLink1Description: Manufacturer URL; ComponentLink1URL: http://www.microchip.com/; ComponentLink2Description: Datasheet; ComponentLink2URL: http://ww1.microchip.com/downloads/en/DeviceDoc/70318D.pdf; ComponentLink3Description: Package Specification; ComponentLink3URL: http://www.microchip.com/stellent/groups/techpub_sg/documents/packagingspec/en012702.pdf
footprint QFNS-MM28_N (QFN, 28-Leads, Body 6x6mm, Pitch 0.65mm, Thermal Pad 4.7x4.7mm, IPC Medium Density)
footprint QFNS-MM28_L (QFN, 28-Leads, Body 6x6mm, Pitch 0.65mm, Thermal Pad 4.7x4.7mm, IPC High Density)
footprint QFNS-MM28_M (QFN, 28-Leads, Body 6x6mm, Pitch 0.65mm, Thermal Pad 4.7x4.7mm, IPC Low Density)
pins: 1 AN2/CMP1C/CMP2A/RA2 (io), 2 AN3/CMP1D/CMP2B/RP0/CN0/RB0 (io), 3 AN4/CMP2C/CMP3A/RP9/CN9/RB9 (io), 4 AN5/CMP2D/CMP3B/RP10/CN10/RB10 (io), 5 VSS (power), 6 OSC1/CLKIN/AN6/CMP3C/CMP4A/RP1/CN1/RB1 (io), 7 OSC2/CLKO/AN7/CMP3D/CMP4B/RP2/CN2/RB2 (io), 8 PGED2/DACOUT/INT0/RP3/CN3/RB3 (io), 9 PGEC2/EXTREF/RP4/CN4/RB4 (io), 10 VDD (power), 11 PGED3/RP8/CN8/RB8 (io), 12 PGEC3/RP15/CN15/RB15 (io), 13 TDO/RP5/CN5/RB5 (io), 14 PGED1/TDI/SCL/RP6/CN6/RB6 (io), 15 PGEC1/SDA/RP7/CN7/RB7 (io), 16 VSS (power), 17 VCAP/VDDCORE (power), 18 TMS/PWM3H/RP11/CN11/RB11 (io), 19 TCK/PWM3L/RP12/CN12/RB12 (io), 20 PWM2H/RP13/CN13/RB13 (io), 21 PWM2L/RP14/CN14/RB14 (io), 22 PWM1H/RA4 (io), 23 PWM1L/RA3 (io), 24 AVSS (power), 25 AVDD (power), 26 ~{MCLR} (in), 27 AN0/CMP1A/RA0 (io), 28 AN1/CMP1B/RA1 (io), 29 Thermal Pad

## DSPIC33FJ16GS502T-E/SO
designator U?
High-Performance 16-bit Digital Signal Controller, 16 KB Flash, 2 KB RAM , 28-Pin SOIC, Extended High Temperature , Tape and Reel; DatasheetVersion: revD, Mar-2009; PackageVersion: revBB, Aug-2009; PackageReference: SOIC-SO28; PackageDescription: 28-Lead Plastic Small Outline (SO) - Wide 7.50mm Body [SOIC]; Code_JEDEC: MS-013; ComponentLink1Description: Manufacturer URL; ComponentLink1URL: http://www.microchip.com/; ComponentLink2Description: Datasheet; ComponentLink2URL: http://ww1.microchip.com/downloads/en/DeviceDoc/70318D.pdf; ComponentLink3Description: Package Specification; ComponentLink3URL: http://www.microchip.com/stellent/groups/techpub_sg/documents/packagingspec/en012702.pdf
footprint SOIC-SO28_N (SOIC, 28-Leads, Body 17.9x7.5mm, Pitch 1.27mm, IPC Medium Density)
footprint SOIC-SO28_L (SOIC, 28-Leads, Body 17.9x7.5mm, Pitch 1.27mm, IPC High Density)
footprint SOIC-SO28_M (SOIC, 28-Leads, Body 17.9x7.5mm, Pitch 1.27mm, IPC Low Density)
pins: 1 ~{MCLR} (in), 2 AN0/CMP1A/RA0 (io), 3 AN1/CMP1B/RA1 (io), 4 AN2/CMP1C/CMP2A/RA2 (io), 5 AN3/CMP1D/CMP2B/RP0/CN0/RB0 (io), 6 AN4/CMP2C/CMP3A/RP9/CN9/RB9 (io), 7 AN5/CMP2D/CMP3B/RP10/CN10/RB10 (io), 8 VSS (power), 9 OSC1/CLKIN/AN6/CMP3C/CMP4A/RP1/CN1/RB1 (io), 10 OSC2/CLKO/AN7/CMP3D/CMP4B/RP2/CN2/RB2 (io), 11 PGED2/DACOUT/INT0/RP3/CN3/RB3 (io), 12 PGEC2/EXTREF/RP4/CN4/RB4 (io), 13 VDD (power), 14 CN8/RB8/PGED3/RP8/CN8/RB8 (io), 15 PGEC3/RP15/CN15/RB15 (io), 16 TDO/RP5/CN6/RB5 (io), 17 PGED1/TDI/SCL/RP6/CN6/RB6 (io), 18 PGEC1/SDA/RP7/CN7/RB7 (io), 19 VSS (power), 20 VCAP/VDDCORE (power), 21 TMS/PWM3H/RP11/CN11/RB11 (io), 22 TCK/PWM3L/RP12/CN12/RB12 (io), 23 PWM2H/RP13/CN13/RB13 (io), 24 PWM2L/RP14/CN14/RB14 (io), 25 PWM1H/RA4 (io), 26 PWM1L/RA3 (io), 27 AVSS (power), 28 AVDD (power)

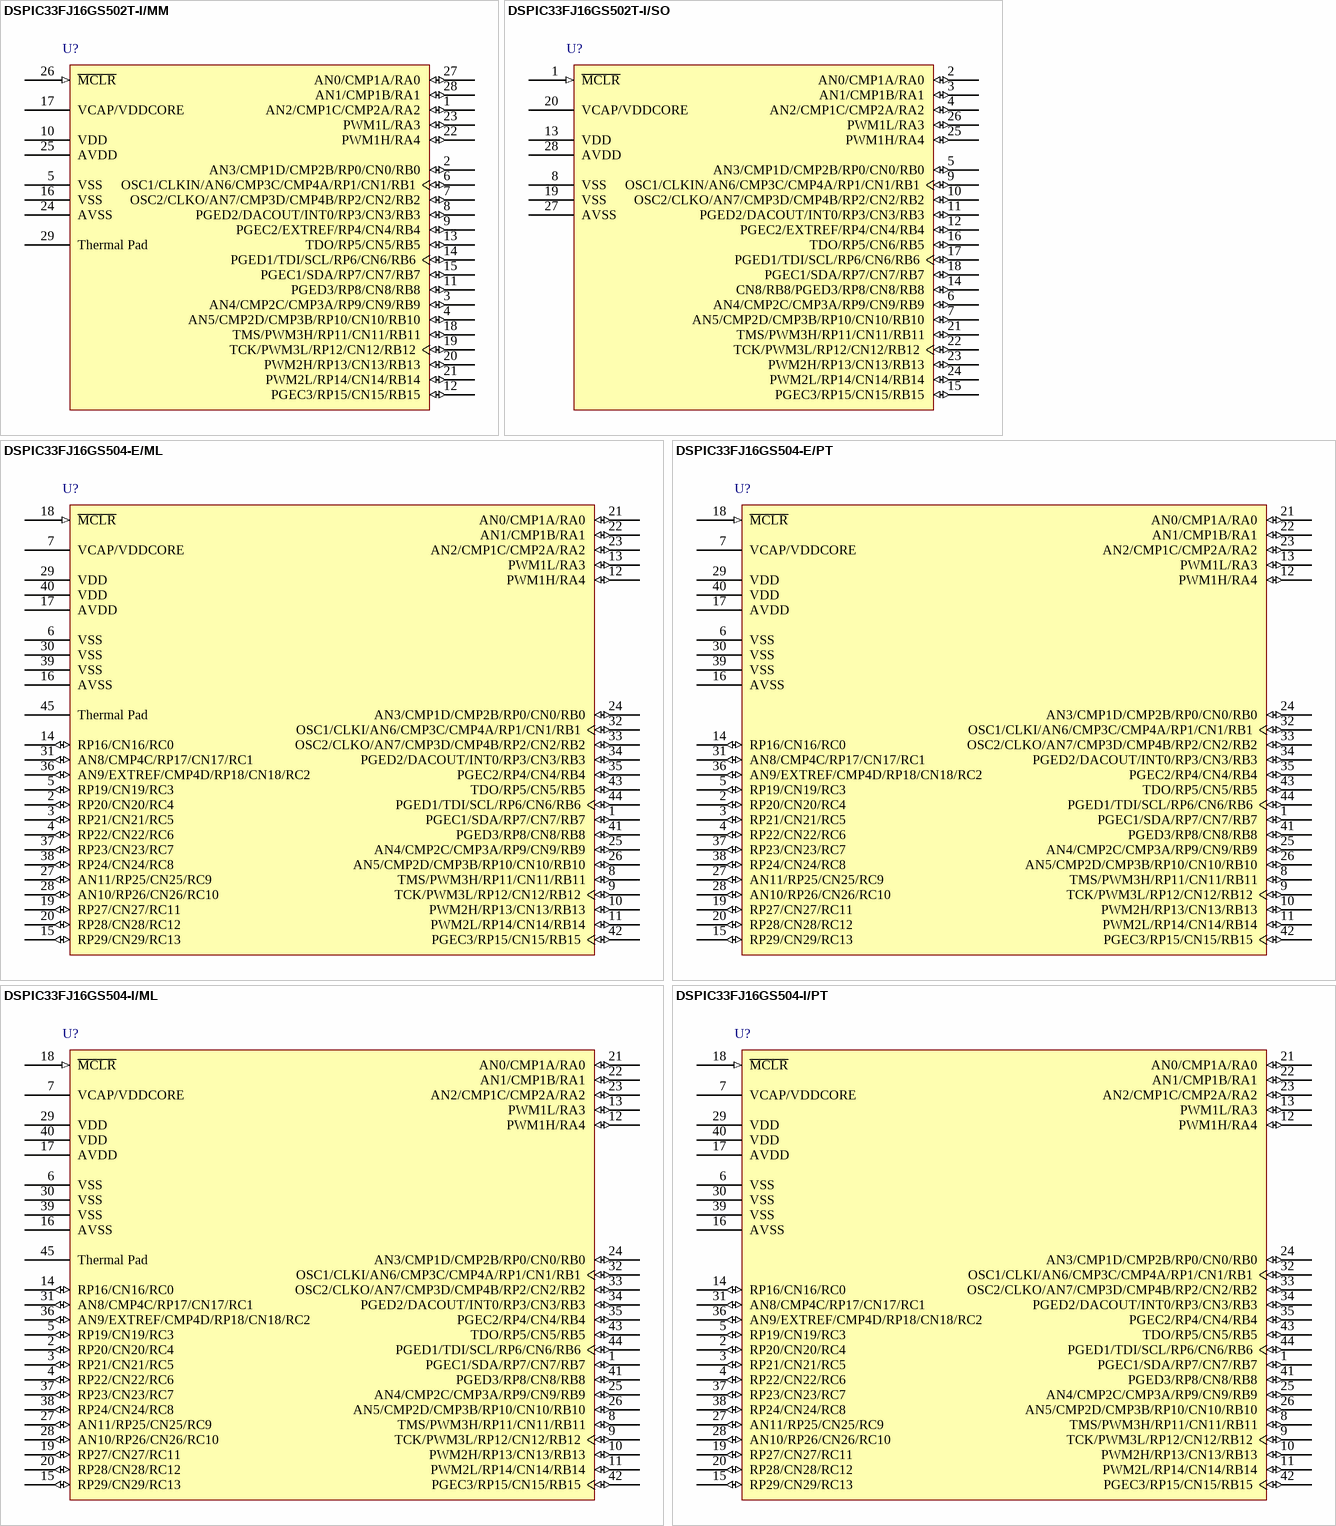
[diagram p11: symbols DSPIC33FJ16GS502T-I/MM to DSPIC33FJ16GS504-I/PT]

## DSPIC33FJ16GS502T-I/MM
designator U?
High-Performance 16-bit Digital Signal Controller, 16 KB Flash, 2 KB RAM , 28-Pin QFN, Industrial Temperature , Tape and Reel; DatasheetVersion: revD, Mar-2009; PackageVersion: revBB, Aug-2009; PackageReference: QFNS-MM28; PackageDescription: 28-Lead Plastic Quad Flat, No Lead Package (MM) - 6x6x0.9 mm Body [QFN-S] with 0.40 mm Contact Length; ComponentLink1Description: Manufacturer URL; ComponentLink1URL: http://www.microchip.com/; ComponentLink2Description: Datasheet; ComponentLink2URL: http://ww1.microchip.com/downloads/en/DeviceDoc/70318D.pdf; ComponentLink3Description: Package Specification; ComponentLink3URL: http://www.microchip.com/stellent/groups/techpub_sg/documents/packagingspec/en012702.pdf
footprint QFNS-MM28_N (QFN, 28-Leads, Body 6x6mm, Pitch 0.65mm, Thermal Pad 4.7x4.7mm, IPC Medium Density)
footprint QFNS-MM28_L (QFN, 28-Leads, Body 6x6mm, Pitch 0.65mm, Thermal Pad 4.7x4.7mm, IPC High Density)
footprint QFNS-MM28_M (QFN, 28-Leads, Body 6x6mm, Pitch 0.65mm, Thermal Pad 4.7x4.7mm, IPC Low Density)
pins: 1 AN2/CMP1C/CMP2A/RA2 (io), 2 AN3/CMP1D/CMP2B/RP0/CN0/RB0 (io), 3 AN4/CMP2C/CMP3A/RP9/CN9/RB9 (io), 4 AN5/CMP2D/CMP3B/RP10/CN10/RB10 (io), 5 VSS (power), 6 OSC1/CLKIN/AN6/CMP3C/CMP4A/RP1/CN1/RB1 (io), 7 OSC2/CLKO/AN7/CMP3D/CMP4B/RP2/CN2/RB2 (io), 8 PGED2/DACOUT/INT0/RP3/CN3/RB3 (io), 9 PGEC2/EXTREF/RP4/CN4/RB4 (io), 10 VDD (power), 11 PGED3/RP8/CN8/RB8 (io), 12 PGEC3/RP15/CN15/RB15 (io), 13 TDO/RP5/CN5/RB5 (io), 14 PGED1/TDI/SCL/RP6/CN6/RB6 (io), 15 PGEC1/SDA/RP7/CN7/RB7 (io), 16 VSS (power), 17 VCAP/VDDCORE (power), 18 TMS/PWM3H/RP11/CN11/RB11 (io), 19 TCK/PWM3L/RP12/CN12/RB12 (io), 20 PWM2H/RP13/CN13/RB13 (io), 21 PWM2L/RP14/CN14/RB14 (io), 22 PWM1H/RA4 (io), 23 PWM1L/RA3 (io), 24 AVSS (power), 25 AVDD (power), 26 ~{MCLR} (in), 27 AN0/CMP1A/RA0 (io), 28 AN1/CMP1B/RA1 (io), 29 Thermal Pad

## DSPIC33FJ16GS502T-I/SO
designator U?
High-Performance 16-bit Digital Signal Controller, 16 KB Flash, 2 KB RAM , 28-Pin SOIC, Industrial Temperature , Tape and Reel; DatasheetVersion: revD, Mar-2009; PackageVersion: revBB, Aug-2009; PackageReference: SOIC-SO28; PackageDescription: 28-Lead Plastic Small Outline (SO) - Wide 7.50mm Body [SOIC]; Code_JEDEC: MS-013; ComponentLink1Description: Manufacturer URL; ComponentLink1URL: http://www.microchip.com/; ComponentLink2Description: Datasheet; ComponentLink2URL: http://ww1.microchip.com/downloads/en/DeviceDoc/70318D.pdf; ComponentLink3Description: Package Specification; ComponentLink3URL: http://www.microchip.com/stellent/groups/techpub_sg/documents/packagingspec/en012702.pdf
footprint SOIC-SO28_N (SOIC, 28-Leads, Body 17.9x7.5mm, Pitch 1.27mm, IPC Medium Density)
footprint SOIC-SO28_L (SOIC, 28-Leads, Body 17.9x7.5mm, Pitch 1.27mm, IPC High Density)
footprint SOIC-SO28_M (SOIC, 28-Leads, Body 17.9x7.5mm, Pitch 1.27mm, IPC Low Density)
pins: 1 ~{MCLR} (in), 2 AN0/CMP1A/RA0 (io), 3 AN1/CMP1B/RA1 (io), 4 AN2/CMP1C/CMP2A/RA2 (io), 5 AN3/CMP1D/CMP2B/RP0/CN0/RB0 (io), 6 AN4/CMP2C/CMP3A/RP9/CN9/RB9 (io), 7 AN5/CMP2D/CMP3B/RP10/CN10/RB10 (io), 8 VSS (power), 9 OSC1/CLKIN/AN6/CMP3C/CMP4A/RP1/CN1/RB1 (io), 10 OSC2/CLKO/AN7/CMP3D/CMP4B/RP2/CN2/RB2 (io), 11 PGED2/DACOUT/INT0/RP3/CN3/RB3 (io), 12 PGEC2/EXTREF/RP4/CN4/RB4 (io), 13 VDD (power), 14 CN8/RB8/PGED3/RP8/CN8/RB8 (io), 15 PGEC3/RP15/CN15/RB15 (io), 16 TDO/RP5/CN6/RB5 (io), 17 PGED1/TDI/SCL/RP6/CN6/RB6 (io), 18 PGEC1/SDA/RP7/CN7/RB7 (io), 19 VSS (power), 20 VCAP/VDDCORE (power), 21 TMS/PWM3H/RP11/CN11/RB11 (io), 22 TCK/PWM3L/RP12/CN12/RB12 (io), 23 PWM2H/RP13/CN13/RB13 (io), 24 PWM2L/RP14/CN14/RB14 (io), 25 PWM1H/RA4 (io), 26 PWM1L/RA3 (io), 27 AVSS (power), 28 AVDD (power)

## DSPIC33FJ16GS504-E/ML
designator U?
High-Performance 16-bit Digital Signal Controller, 16 KB Flash, 2 KB RAM , 44-Pin QFN, Extended High Temperature; DatasheetVersion: revD, Mar-2009; PackageVersion: revBB, Aug-2009; PackageReference: QFN-ML44; PackageDescription: 44-Lead Plastic Quad Flat, No Lead Package (ML) - 8x8 mm Body [QFN]; Code_JEDEC: MO-220; Code_IPC: QFN65P800X800-44V2; ComponentLink1Description: Manufacturer URL; ComponentLink1URL: http://www.microchip.com/; ComponentLink2Description: Datasheet; ComponentLink2URL: http://ww1.microchip.com/downloads/en/DeviceDoc/70318D.pdf; ComponentLink3Description: Package Specification; ComponentLink3URL: http://www.microchip.com/stellent/groups/techpub_sg/documents/packagingspec/en012702.pdf
footprint QFN-ML44_N (QFN, 44-Leads, Body 8x8mm, Pitch 0.65mm, Thermal Pad 6.8x6.8mm, IPC Medium Density)
footprint QFN-ML44_L (QFN, 44-Leads, Body 8x8mm, Pitch 0.65mm, Thermal Pad 6.8x6.8mm, IPC High Density)
footprint QFN-ML44_M (QFN, 44-Leads, Body 8x8mm, Pitch 0.65mm, Thermal Pad 6.8x6.8mm, IPC Low Density)
pins: 1 PGEC1/SDA/RP7/CN7/RB7 (io), 2 RP20/CN20/RC4 (io), 3 RP21/CN21/RC5 (io), 4 RP22/CN22/RC6 (io), 5 RP19/CN19/RC3 (io), 6 VSS (power), 7 VCAP/VDDCORE (power), 8 TMS/PWM3H/RP11/CN11/RB11 (io), 9 TCK/PWM3L/RP12/CN12/RB12 (io), 10 PWM2H/RP13/CN13/RB13 (io), 11 PWM2L/RP14/CN14/RB14 (io), 12 PWM1H/RA4 (io), 13 PWM1L/RA3 (io), 14 RP16/CN16/RC0 (io), 15 RP29/CN29/RC13 (io), 16 AVSS (power), 17 AVDD (power), 18 ~{MCLR} (in), 19 RP27/CN27/RC11 (io), 20 RP28/CN28/RC12 (io), 21 AN0/CMP1A/RA0 (io), 22 AN1/CMP1B/RA1 (io), 23 AN2/CMP1C/CMP2A/RA2 (io), 24 AN3/CMP1D/CMP2B/RP0/CN0/RB0 (io), 25 AN4/CMP2C/CMP3A/RP9/CN9/RB9 (io), 26 AN5/CMP2D/CMP3B/RP10/CN10/RB10 (io), 27 AN11/RP25/CN25/RC9 (io), 28 AN10/RP26/CN26/RC10 (io), 29 VDD (power), 30 VSS (power), 31 AN8/CMP4C/RP17/CN17/RC1 (io), 32 OSC1/CLKI/AN6/CMP3C/CMP4A/RP1/CN1/RB1 (io), 33 OSC2/CLKO/AN7/CMP3D/CMP4B/RP2/CN2/RB2 (io), 34 PGED2/DACOUT/INT0/RP3/CN3/RB3 (io), 35 PGEC2/RP4/CN4/RB4 (io), 36 AN9/EXTREF/CMP4D/RP18/CN18/RC2 (io), 37 RP23/CN23/RC7 (io), 38 RP24/CN24/RC8 (io), 39 VSS (power), 40 VDD (power), 41 PGED3/RP8/CN8/RB8 (io), 42 PGEC3/RP15/CN15/RB15 (io), 43 TDO/RP5/CN5/RB5 (io), 44 PGED1/TDI/SCL/RP6/CN6/RB6 (io), 45 Thermal Pad

## DSPIC33FJ16GS504-E/PT
designator U?
High-Performance 16-bit Digital Signal Controller, 16 KB Flash, 2 KB RAM , 44-Pin TQFP, Extended High Temperature; DatasheetVersion: revD, Mar-2009; PackageVersion: revBB, Aug-2009; PackageReference: TQFP-PT44; PackageDescription: 44-Lead Plastic Thin Quad Flatpack (PT) - 10x10x1mm Body, 2.00mm [TQFP]; Code_JEDEC: MS-026; ComponentLink1Description: Manufacturer URL; ComponentLink1URL: http://www.microchip.com/; ComponentLink2Description: Datasheet; ComponentLink2URL: http://ww1.microchip.com/downloads/en/DeviceDoc/70318D.pdf; ComponentLink3Description: Package Specification; ComponentLink3URL: http://www.microchip.com/stellent/groups/techpub_sg/documents/packagingspec/en012702.pdf
footprint TQFP-PT44_N (Thin QFP, 44-Leads, Body 10x10mm, Pitch 0.8mm, IPC Medium Density)
footprint TQFP-PT44_L (Thin QFP, 44-Leads, Body 10x10mm, Pitch 0.8mm, IPC High Density)
footprint TQFP-PT44_M (Thin QFP, 44-Leads, Body 10x10mm, Pitch 0.8mm, IPC Low Density)
pins: 1 PGEC1/SDA/RP7/CN7/RB7 (io), 2 RP20/CN20/RC4 (io), 3 RP21/CN21/RC5 (io), 4 RP22/CN22/RC6 (io), 5 RP19/CN19/RC3 (io), 6 VSS (power), 7 VCAP/VDDCORE (power), 8 TMS/PWM3H/RP11/CN11/RB11 (io), 9 TCK/PWM3L/RP12/CN12/RB12 (io), 10 PWM2H/RP13/CN13/RB13 (io), 11 PWM2L/RP14/CN14/RB14 (io), 12 PWM1H/RA4 (io), 13 PWM1L/RA3 (io), 14 RP16/CN16/RC0 (io), 15 RP29/CN29/RC13 (io), 16 AVSS (power), 17 AVDD (power), 18 ~{MCLR} (in), 19 RP27/CN27/RC11 (io), 20 RP28/CN28/RC12 (io), 21 AN0/CMP1A/RA0 (io), 22 AN1/CMP1B/RA1 (io), 23 AN2/CMP1C/CMP2A/RA2 (io), 24 AN3/CMP1D/CMP2B/RP0/CN0/RB0 (io), 25 AN4/CMP2C/CMP3A/RP9/CN9/RB9 (io), 26 AN5/CMP2D/CMP3B/RP10/CN10/RB10 (io), 27 AN11/RP25/CN25/RC9 (io), 28 AN10/RP26/CN26/RC10 (io), 29 VDD (power), 30 VSS (power), 31 AN8/CMP4C/RP17/CN17/RC1 (io), 32 OSC1/CLKI/AN6/CMP3C/CMP4A/RP1/CN1/RB1 (io), 33 OSC2/CLKO/AN7/CMP3D/CMP4B/RP2/CN2/RB2 (io), 34 PGED2/DACOUT/INT0/RP3/CN3/RB3 (io), 35 PGEC2/RP4/CN4/RB4 (io), 36 AN9/EXTREF/CMP4D/RP18/CN18/RC2 (io), 37 RP23/CN23/RC7 (io), 38 RP24/CN24/RC8 (io), 39 VSS (power), 40 VDD (power), 41 PGED3/RP8/CN8/RB8 (io), 42 PGEC3/RP15/CN15/RB15 (io), 43 TDO/RP5/CN5/RB5 (io), 44 PGED1/TDI/SCL/RP6/CN6/RB6 (io)

## DSPIC33FJ16GS504-I/ML
designator U?
High-Performance 16-bit Digital Signal Controller, 16 KB Flash, 2 KB RAM , 44-Pin QFN, Industrial Temperature; DatasheetVersion: revD, Mar-2009; PackageVersion: revBB, Aug-2009; PackageReference: QFN-ML44; PackageDescription: 44-Lead Plastic Quad Flat, No Lead Package (ML) - 8x8 mm Body [QFN]; Code_JEDEC: MO-220; Code_IPC: QFN65P800X800-44V2; ComponentLink1Description: Manufacturer URL; ComponentLink1URL: http://www.microchip.com/; ComponentLink2Description: Datasheet; ComponentLink2URL: http://ww1.microchip.com/downloads/en/DeviceDoc/70318D.pdf; ComponentLink3Description: Package Specification; ComponentLink3URL: http://www.microchip.com/stellent/groups/techpub_sg/documents/packagingspec/en012702.pdf
footprint QFN-ML44_N (QFN, 44-Leads, Body 8x8mm, Pitch 0.65mm, Thermal Pad 6.8x6.8mm, IPC Medium Density)
footprint QFN-ML44_L (QFN, 44-Leads, Body 8x8mm, Pitch 0.65mm, Thermal Pad 6.8x6.8mm, IPC High Density)
footprint QFN-ML44_M (QFN, 44-Leads, Body 8x8mm, Pitch 0.65mm, Thermal Pad 6.8x6.8mm, IPC Low Density)
pins: 1 PGEC1/SDA/RP7/CN7/RB7 (io), 2 RP20/CN20/RC4 (io), 3 RP21/CN21/RC5 (io), 4 RP22/CN22/RC6 (io), 5 RP19/CN19/RC3 (io), 6 VSS (power), 7 VCAP/VDDCORE (power), 8 TMS/PWM3H/RP11/CN11/RB11 (io), 9 TCK/PWM3L/RP12/CN12/RB12 (io), 10 PWM2H/RP13/CN13/RB13 (io), 11 PWM2L/RP14/CN14/RB14 (io), 12 PWM1H/RA4 (io), 13 PWM1L/RA3 (io), 14 RP16/CN16/RC0 (io), 15 RP29/CN29/RC13 (io), 16 AVSS (power), 17 AVDD (power), 18 ~{MCLR} (in), 19 RP27/CN27/RC11 (io), 20 RP28/CN28/RC12 (io), 21 AN0/CMP1A/RA0 (io), 22 AN1/CMP1B/RA1 (io), 23 AN2/CMP1C/CMP2A/RA2 (io), 24 AN3/CMP1D/CMP2B/RP0/CN0/RB0 (io), 25 AN4/CMP2C/CMP3A/RP9/CN9/RB9 (io), 26 AN5/CMP2D/CMP3B/RP10/CN10/RB10 (io), 27 AN11/RP25/CN25/RC9 (io), 28 AN10/RP26/CN26/RC10 (io), 29 VDD (power), 30 VSS (power), 31 AN8/CMP4C/RP17/CN17/RC1 (io), 32 OSC1/CLKI/AN6/CMP3C/CMP4A/RP1/CN1/RB1 (io), 33 OSC2/CLKO/AN7/CMP3D/CMP4B/RP2/CN2/RB2 (io), 34 PGED2/DACOUT/INT0/RP3/CN3/RB3 (io), 35 PGEC2/RP4/CN4/RB4 (io), 36 AN9/EXTREF/CMP4D/RP18/CN18/RC2 (io), 37 RP23/CN23/RC7 (io), 38 RP24/CN24/RC8 (io), 39 VSS (power), 40 VDD (power), 41 PGED3/RP8/CN8/RB8 (io), 42 PGEC3/RP15/CN15/RB15 (io), 43 TDO/RP5/CN5/RB5 (io), 44 PGED1/TDI/SCL/RP6/CN6/RB6 (io), 45 Thermal Pad

## DSPIC33FJ16GS504-I/PT
designator U?
High-Performance 16-bit Digital Signal Controller, 16 KB Flash, 2 KB RAM , 44-Pin TQFP, Industrial Temperature; DatasheetVersion: revD, Mar-2009; PackageVersion: revBB, Aug-2009; PackageReference: TQFP-PT44; PackageDescription: 44-Lead Plastic Thin Quad Flatpack (PT) - 10x10x1mm Body, 2.00mm [TQFP]; Code_JEDEC: MS-026; ComponentLink1Description: Manufacturer URL; ComponentLink1URL: http://www.microchip.com/; ComponentLink2Description: Datasheet; ComponentLink2URL: http://ww1.microchip.com/downloads/en/DeviceDoc/70318D.pdf; ComponentLink3Description: Package Specification; ComponentLink3URL: http://www.microchip.com/stellent/groups/techpub_sg/documents/packagingspec/en012702.pdf
footprint TQFP-PT44_N (Thin QFP, 44-Leads, Body 10x10mm, Pitch 0.8mm, IPC Medium Density)
footprint TQFP-PT44_L (Thin QFP, 44-Leads, Body 10x10mm, Pitch 0.8mm, IPC High Density)
footprint TQFP-PT44_M (Thin QFP, 44-Leads, Body 10x10mm, Pitch 0.8mm, IPC Low Density)
pins: 1 PGEC1/SDA/RP7/CN7/RB7 (io), 2 RP20/CN20/RC4 (io), 3 RP21/CN21/RC5 (io), 4 RP22/CN22/RC6 (io), 5 RP19/CN19/RC3 (io), 6 VSS (power), 7 VCAP/VDDCORE (power), 8 TMS/PWM3H/RP11/CN11/RB11 (io), 9 TCK/PWM3L/RP12/CN12/RB12 (io), 10 PWM2H/RP13/CN13/RB13 (io), 11 PWM2L/RP14/CN14/RB14 (io), 12 PWM1H/RA4 (io), 13 PWM1L/RA3 (io), 14 RP16/CN16/RC0 (io), 15 RP29/CN29/RC13 (io), 16 AVSS (power), 17 AVDD (power), 18 ~{MCLR} (in), 19 RP27/CN27/RC11 (io), 20 RP28/CN28/RC12 (io), 21 AN0/CMP1A/RA0 (io), 22 AN1/CMP1B/RA1 (io), 23 AN2/CMP1C/CMP2A/RA2 (io), 24 AN3/CMP1D/CMP2B/RP0/CN0/RB0 (io), 25 AN4/CMP2C/CMP3A/RP9/CN9/RB9 (io), 26 AN5/CMP2D/CMP3B/RP10/CN10/RB10 (io), 27 AN11/RP25/CN25/RC9 (io), 28 AN10/RP26/CN26/RC10 (io), 29 VDD (power), 30 VSS (power), 31 AN8/CMP4C/RP17/CN17/RC1 (io), 32 OSC1/CLKI/AN6/CMP3C/CMP4A/RP1/CN1/RB1 (io), 33 OSC2/CLKO/AN7/CMP3D/CMP4B/RP2/CN2/RB2 (io), 34 PGED2/DACOUT/INT0/RP3/CN3/RB3 (io), 35 PGEC2/RP4/CN4/RB4 (io), 36 AN9/EXTREF/CMP4D/RP18/CN18/RC2 (io), 37 RP23/CN23/RC7 (io), 38 RP24/CN24/RC8 (io), 39 VSS (power), 40 VDD (power), 41 PGED3/RP8/CN8/RB8 (io), 42 PGEC3/RP15/CN15/RB15 (io), 43 TDO/RP5/CN5/RB5 (io), 44 PGED1/TDI/SCL/RP6/CN6/RB6 (io)

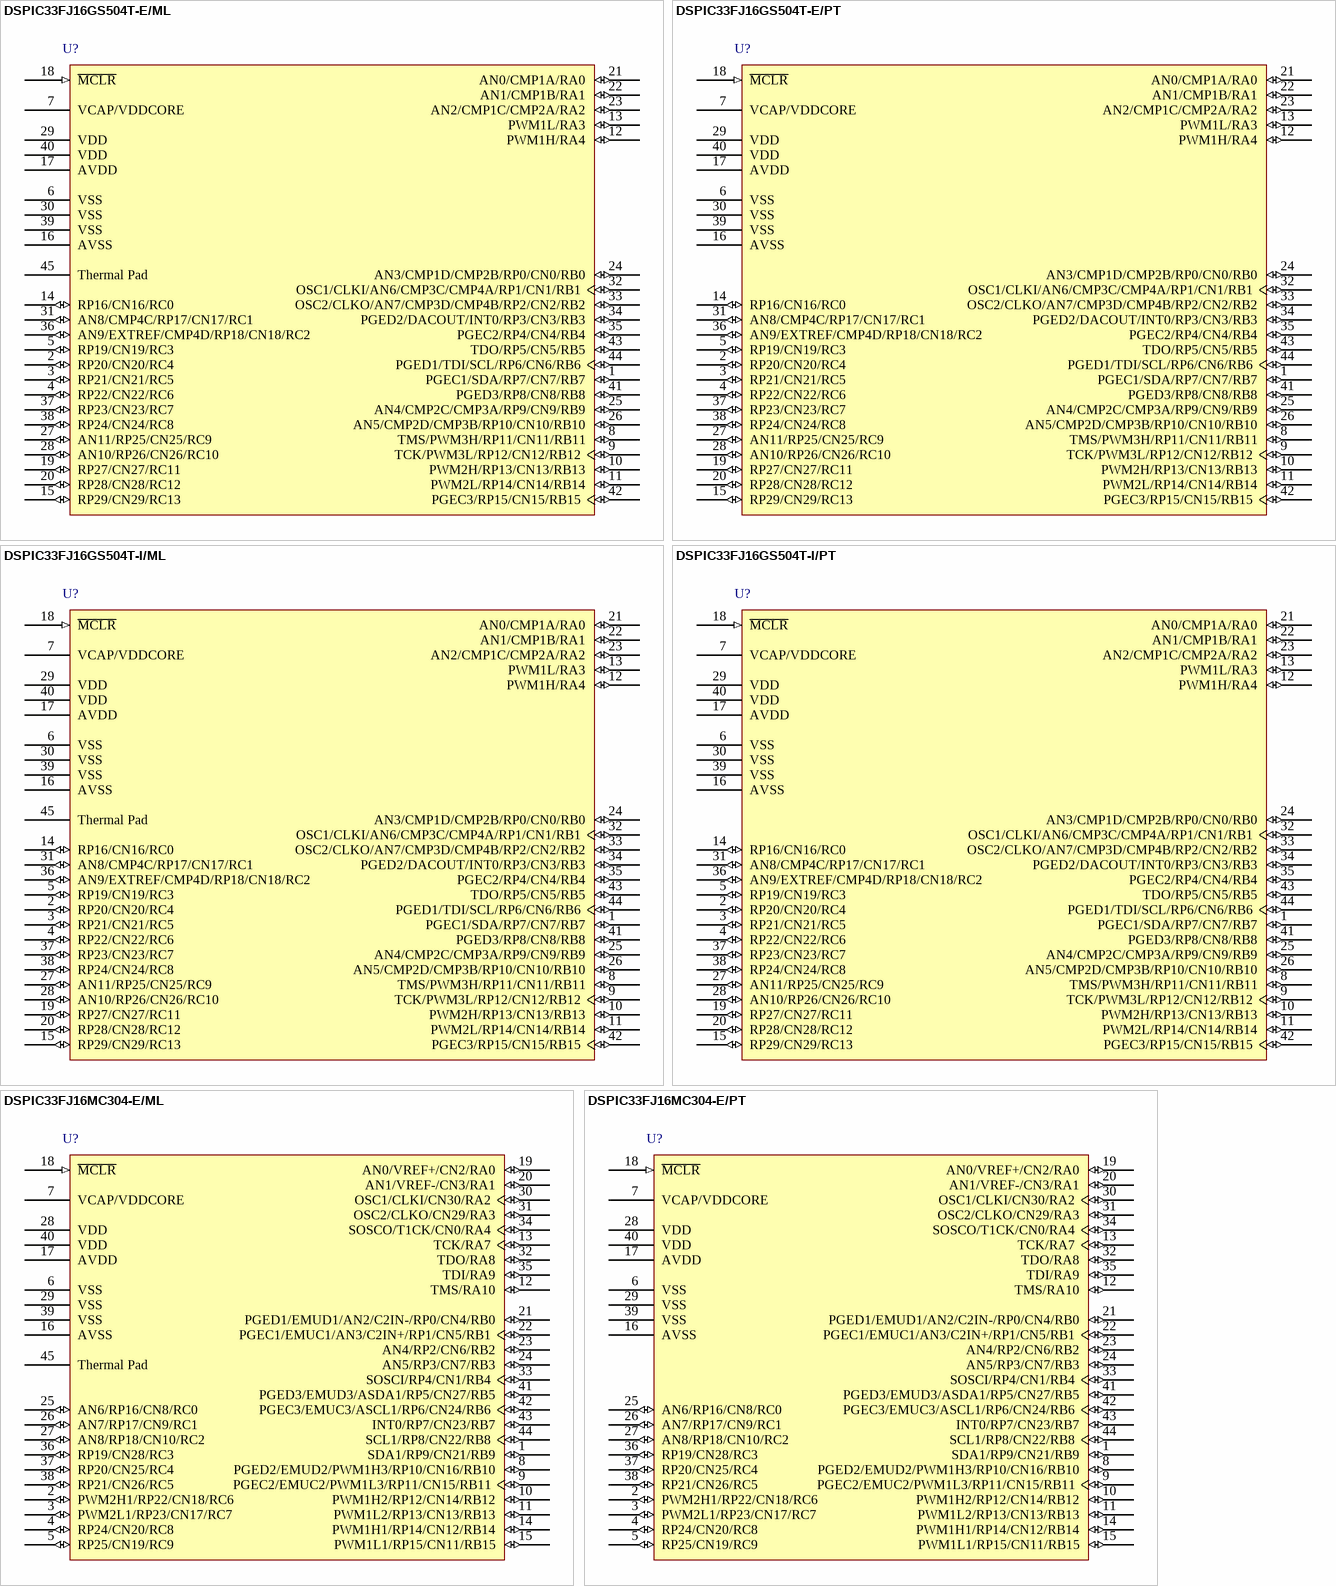
[diagram p12: symbols DSPIC33FJ16GS504T-E/ML to DSPIC33FJ16MC304-E/PT]

## DSPIC33FJ16GS504T-E/ML
designator U?
High-Performance 16-bit Digital Signal Controller, 16 KB Flash, 2 KB RAM , 44-Pin QFN, Extended High Temperature , Tape and Reel; DatasheetVersion: revD, Mar-2009; PackageVersion: revBB, Aug-2009; PackageReference: QFN-ML44; PackageDescription: 44-Lead Plastic Quad Flat, No Lead Package (ML) - 8x8 mm Body [QFN]; Code_JEDEC: MO-220; Code_IPC: QFN65P800X800-44V2; ComponentLink1Description: Manufacturer URL; ComponentLink1URL: http://www.microchip.com/; ComponentLink2Description: Datasheet; ComponentLink2URL: http://ww1.microchip.com/downloads/en/DeviceDoc/70318D.pdf; ComponentLink3Description: Package Specification; ComponentLink3URL: http://www.microchip.com/stellent/groups/techpub_sg/documents/packagingspec/en012702.pdf
footprint QFN-ML44_N (QFN, 44-Leads, Body 8x8mm, Pitch 0.65mm, Thermal Pad 6.8x6.8mm, IPC Medium Density)
footprint QFN-ML44_L (QFN, 44-Leads, Body 8x8mm, Pitch 0.65mm, Thermal Pad 6.8x6.8mm, IPC High Density)
footprint QFN-ML44_M (QFN, 44-Leads, Body 8x8mm, Pitch 0.65mm, Thermal Pad 6.8x6.8mm, IPC Low Density)
pins: 1 PGEC1/SDA/RP7/CN7/RB7 (io), 2 RP20/CN20/RC4 (io), 3 RP21/CN21/RC5 (io), 4 RP22/CN22/RC6 (io), 5 RP19/CN19/RC3 (io), 6 VSS (power), 7 VCAP/VDDCORE (power), 8 TMS/PWM3H/RP11/CN11/RB11 (io), 9 TCK/PWM3L/RP12/CN12/RB12 (io), 10 PWM2H/RP13/CN13/RB13 (io), 11 PWM2L/RP14/CN14/RB14 (io), 12 PWM1H/RA4 (io), 13 PWM1L/RA3 (io), 14 RP16/CN16/RC0 (io), 15 RP29/CN29/RC13 (io), 16 AVSS (power), 17 AVDD (power), 18 ~{MCLR} (in), 19 RP27/CN27/RC11 (io), 20 RP28/CN28/RC12 (io), 21 AN0/CMP1A/RA0 (io), 22 AN1/CMP1B/RA1 (io), 23 AN2/CMP1C/CMP2A/RA2 (io), 24 AN3/CMP1D/CMP2B/RP0/CN0/RB0 (io), 25 AN4/CMP2C/CMP3A/RP9/CN9/RB9 (io), 26 AN5/CMP2D/CMP3B/RP10/CN10/RB10 (io), 27 AN11/RP25/CN25/RC9 (io), 28 AN10/RP26/CN26/RC10 (io), 29 VDD (power), 30 VSS (power), 31 AN8/CMP4C/RP17/CN17/RC1 (io), 32 OSC1/CLKI/AN6/CMP3C/CMP4A/RP1/CN1/RB1 (io), 33 OSC2/CLKO/AN7/CMP3D/CMP4B/RP2/CN2/RB2 (io), 34 PGED2/DACOUT/INT0/RP3/CN3/RB3 (io), 35 PGEC2/RP4/CN4/RB4 (io), 36 AN9/EXTREF/CMP4D/RP18/CN18/RC2 (io), 37 RP23/CN23/RC7 (io), 38 RP24/CN24/RC8 (io), 39 VSS (power), 40 VDD (power), 41 PGED3/RP8/CN8/RB8 (io), 42 PGEC3/RP15/CN15/RB15 (io), 43 TDO/RP5/CN5/RB5 (io), 44 PGED1/TDI/SCL/RP6/CN6/RB6 (io), 45 Thermal Pad

## DSPIC33FJ16GS504T-E/PT
designator U?
High-Performance 16-bit Digital Signal Controller, 16 KB Flash, 2 KB RAM , 44-Pin TQFP, Extended High Temperature , Tape and Reel; DatasheetVersion: revD, Mar-2009; PackageVersion: revBB, Aug-2009; PackageReference: TQFP-PT44; PackageDescription: 44-Lead Plastic Thin Quad Flatpack (PT) - 10x10x1mm Body, 2.00mm [TQFP]; Code_JEDEC: MS-026; ComponentLink1Description: Manufacturer URL; ComponentLink1URL: http://www.microchip.com/; ComponentLink2Description: Datasheet; ComponentLink2URL: http://ww1.microchip.com/downloads/en/DeviceDoc/70318D.pdf; ComponentLink3Description: Package Specification; ComponentLink3URL: http://www.microchip.com/stellent/groups/techpub_sg/documents/packagingspec/en012702.pdf
footprint TQFP-PT44_N (Thin QFP, 44-Leads, Body 10x10mm, Pitch 0.8mm, IPC Medium Density)
footprint TQFP-PT44_L (Thin QFP, 44-Leads, Body 10x10mm, Pitch 0.8mm, IPC High Density)
footprint TQFP-PT44_M (Thin QFP, 44-Leads, Body 10x10mm, Pitch 0.8mm, IPC Low Density)
pins: 1 PGEC1/SDA/RP7/CN7/RB7 (io), 2 RP20/CN20/RC4 (io), 3 RP21/CN21/RC5 (io), 4 RP22/CN22/RC6 (io), 5 RP19/CN19/RC3 (io), 6 VSS (power), 7 VCAP/VDDCORE (power), 8 TMS/PWM3H/RP11/CN11/RB11 (io), 9 TCK/PWM3L/RP12/CN12/RB12 (io), 10 PWM2H/RP13/CN13/RB13 (io), 11 PWM2L/RP14/CN14/RB14 (io), 12 PWM1H/RA4 (io), 13 PWM1L/RA3 (io), 14 RP16/CN16/RC0 (io), 15 RP29/CN29/RC13 (io), 16 AVSS (power), 17 AVDD (power), 18 ~{MCLR} (in), 19 RP27/CN27/RC11 (io), 20 RP28/CN28/RC12 (io), 21 AN0/CMP1A/RA0 (io), 22 AN1/CMP1B/RA1 (io), 23 AN2/CMP1C/CMP2A/RA2 (io), 24 AN3/CMP1D/CMP2B/RP0/CN0/RB0 (io), 25 AN4/CMP2C/CMP3A/RP9/CN9/RB9 (io), 26 AN5/CMP2D/CMP3B/RP10/CN10/RB10 (io), 27 AN11/RP25/CN25/RC9 (io), 28 AN10/RP26/CN26/RC10 (io), 29 VDD (power), 30 VSS (power), 31 AN8/CMP4C/RP17/CN17/RC1 (io), 32 OSC1/CLKI/AN6/CMP3C/CMP4A/RP1/CN1/RB1 (io), 33 OSC2/CLKO/AN7/CMP3D/CMP4B/RP2/CN2/RB2 (io), 34 PGED2/DACOUT/INT0/RP3/CN3/RB3 (io), 35 PGEC2/RP4/CN4/RB4 (io), 36 AN9/EXTREF/CMP4D/RP18/CN18/RC2 (io), 37 RP23/CN23/RC7 (io), 38 RP24/CN24/RC8 (io), 39 VSS (power), 40 VDD (power), 41 PGED3/RP8/CN8/RB8 (io), 42 PGEC3/RP15/CN15/RB15 (io), 43 TDO/RP5/CN5/RB5 (io), 44 PGED1/TDI/SCL/RP6/CN6/RB6 (io)